# Altium integrated library Altera FLEX 10K.IntLib: 292 symbols (part 9 of 37)
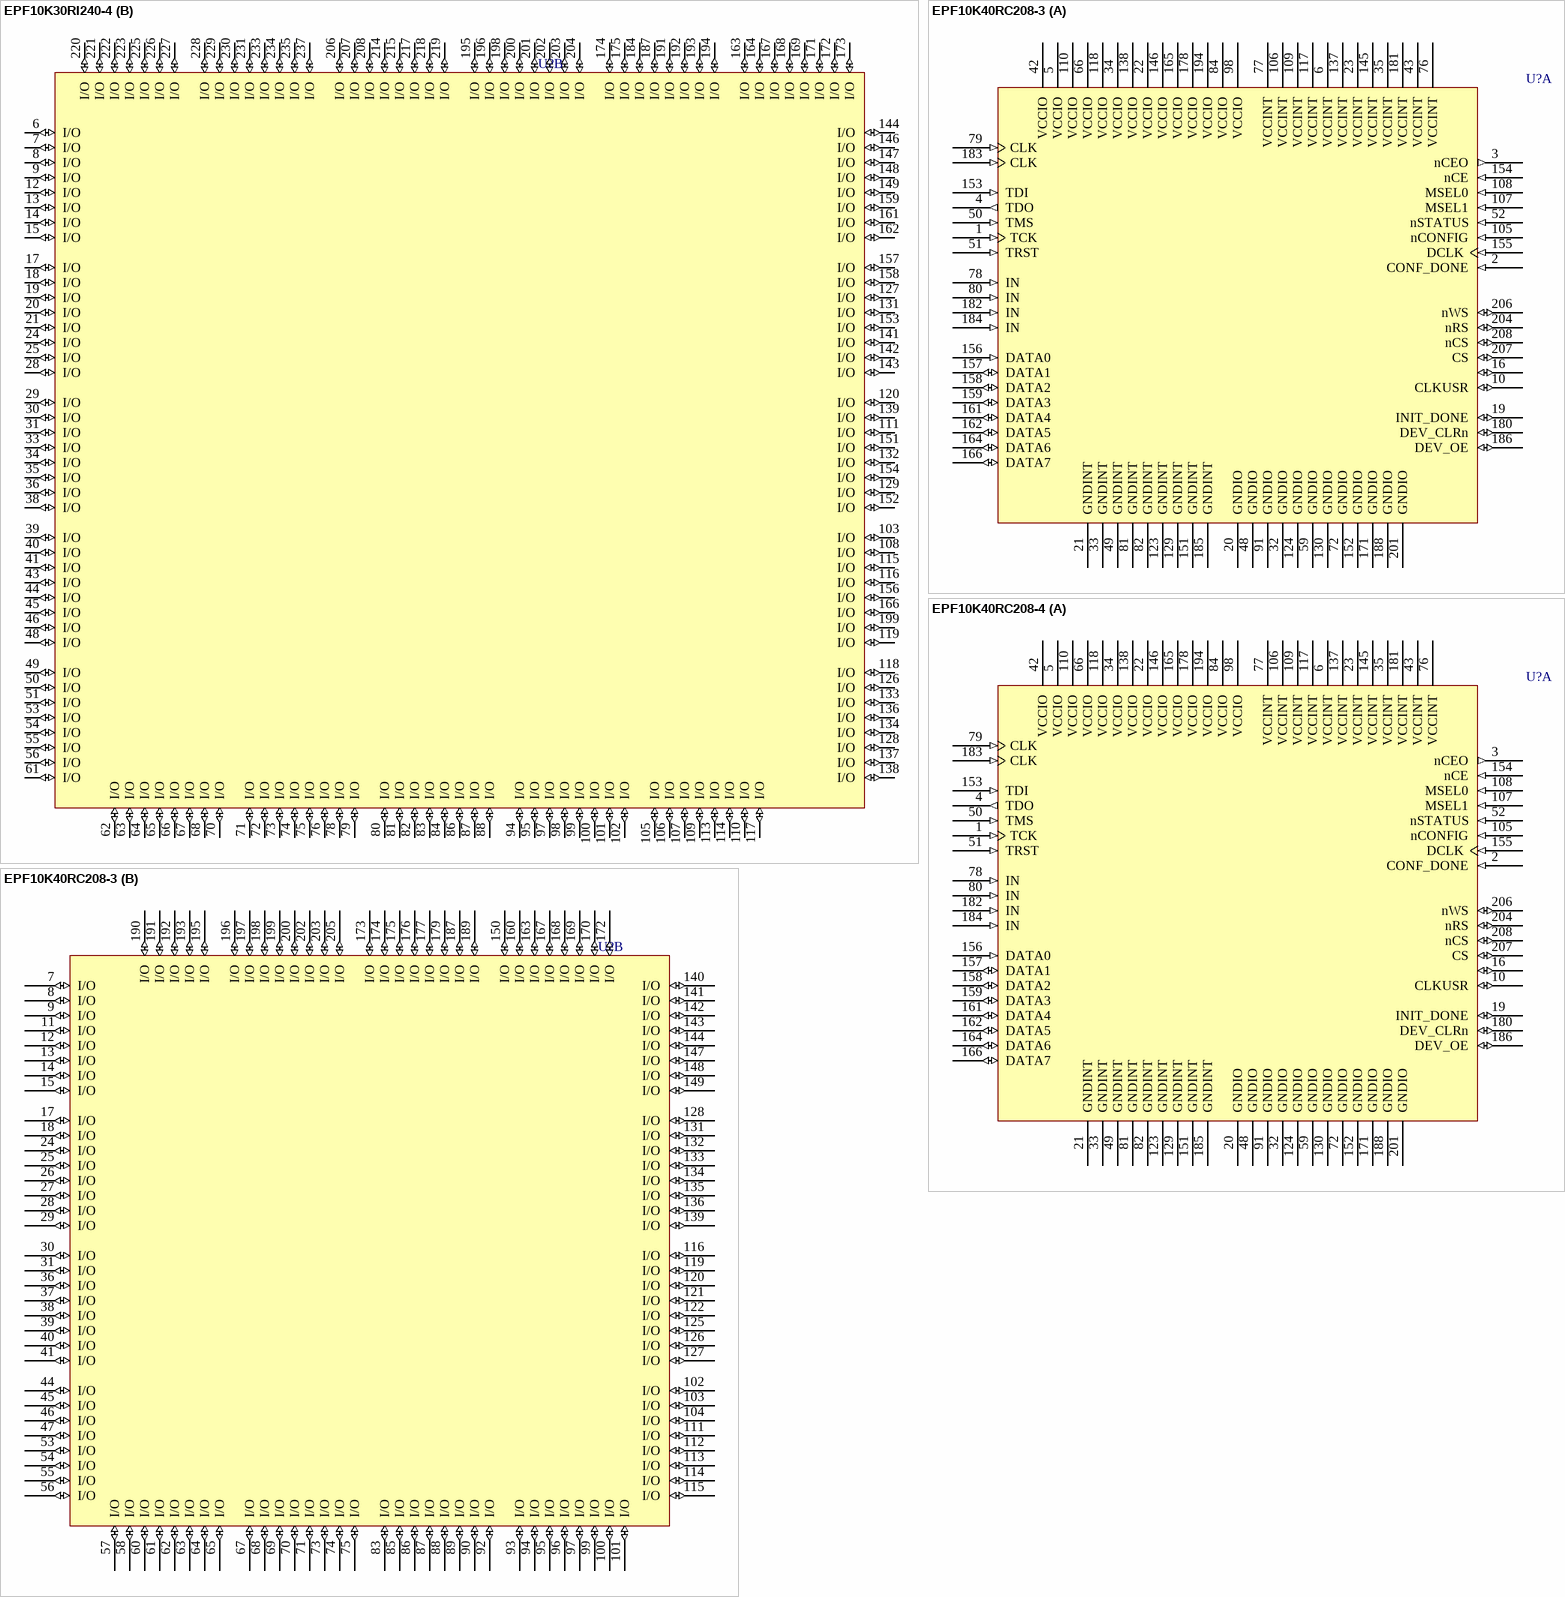
[diagram p407: symbols EPF10K30RI240-4 to EPF10K40RC208-4]

## EPF10K30RI240-4
designator U?
FLEX EPF10K30 5.0V Embedded PLD, 189 User IO Pins, 240-Pin RQFP, Speed Grade 4, Industrial Grade; Published: 24-Nov-2000; LatestRevisionDate: 13-Apr-2006; LatestRevisionNote: IPC-7351 Footprint Added.; DatasheetVersion: ver4.2, Jan-2003; PackageVersion: ver14.2, Oct-2005; PackageReference: RQFP240; Publisher: Altium Limited; PackageDescription: 240-Pin Power Quad Flat Pack (RQFP240); Supplier 1: Digi-Key; Supplier Part Number 1: 544-2234-ND; Code_JEDEC: MS-029-GA; ComponentLink1Description: Manufacturer Link; ComponentLink1URL: http://www.altera.com/products/devices/flex10k/f10-index.html; ComponentLink2Description: Datasheet; ComponentLink2URL: http://www.altera.com/literature/ds/dsf10k.pdf
footprint RQFP240_N (Shrink QFP, 240-Leads, Body 32x32mm, Pitch 0.5mm, IPC Medium Density)
footprint RQFP240_L (Shrink QFP, 240-Leads, Body 32x32mm, Pitch 0.5mm, IPC High Density)
footprint RQFP240_M (Shrink QFP, 240-Leads, Body 32x32mm, Pitch 0.5mm, IPC Low Density)
3D model EPF10K30-RQFP240 (240-Pin Power Quad Flat Pack (RQFP240))
part A pins: 1 TCK (in), 2 CONF_DONE (in), 3 nCEO (out), 4 TDO (out), 5 VCCINT (power), 10 GNDINT (power), 11 CLKUSR (io), 16 VCCINT (power), 22 GNDINT (power), 23 RDYnBUSY (io), 26 INIT_DONE (io), 27 VCCINT (power), 32 GNDINT (power), 37 VCCINT (power), 42 GNDINT (power), 47 VCCINT (power), 52 GNDINT (power), 57 VCCINT (power), 58 TMS (in), 59 TRST (in), 60 nSTATUS (in), 69 GNDINT (power), 77 VCCINT (power), 85 GNDINT (power), 89 VCCINT (power), 90 IN (in), 91 CLK (in), 92 IN (in), 93 GNDINT (power), 96 VCCINT (power), 104 GNDINT (power), 112 VCCINT (power), 121 nCONFIG (in), 122 VCCINT (power), 123 MSEL1 (in), 124 MSEL0 (in), 125 GNDINT (power), 130 VCCINT (power), 135 GNDINT (power), 140 VCCINT (power), 145 GNDINT (power), 150 VCCINT (power), 155 GNDINT (power), 160 VCCINT (power), 165 GNDINT (power), 170 VCCINT (power), 176 GNDINT (power), 177 TDI (in), 178 nCE (in), 179 DCLK (in), 180 DATA0 (in), 181 DATA1 (io), 182 DATA2 (io), 183 DATA3 (io), 185 DATA4 (io), 186 DATA5 (io), 188 DATA6 (io), 189 VCCINT (power), 190 DATA7 (io), 197 GNDINT (power), 205 VCCINT (power), 209 DEV_CLRn (io), 210 IN (in), 211 CLK (in), 212 IN (in), 213 DEV_OE (io), 216 GNDINT (power), 224 VCCINT (power), 232 GNDINT (power), 236 nRS (io), 238 nWS (io), 239 CS (io), 240 nCS (io)
part B pins: 6 I/O (io), 7 I/O (io), 8 I/O (io), 9 I/O (io), 12 I/O (io), 13 I/O (io), 14 I/O (io), 15 I/O (io), 17 I/O (io), 18 I/O (io), 19 I/O (io), 20 I/O (io), 21 I/O (io), 24 I/O (io), 25 I/O (io), 28 I/O (io), 29 I/O (io), 30 I/O (io), 31 I/O (io), 33 I/O (io), 34 I/O (io), 35 I/O (io), 36 I/O (io), 38 I/O (io), 39 I/O (io), 40 I/O (io), 41 I/O (io), 43 I/O (io), 44 I/O (io), 45 I/O (io), 46 I/O (io), 48 I/O (io), 49 I/O (io), 50 I/O (io), 51 I/O (io), 53 I/O (io), 54 I/O (io), 55 I/O (io), 56 I/O (io), 61 I/O (io), 62 I/O (io), 63 I/O (io), 64 I/O (io), 65 I/O (io), 66 I/O (io), 67 I/O (io), 68 I/O (io), 70 I/O (io), 71 I/O (io), 72 I/O (io), 73 I/O (io), 74 I/O (io), 75 I/O (io), 76 I/O (io), 78 I/O (io), 79 I/O (io), 80 I/O (io), 81 I/O (io), 82 I/O (io), 83 I/O (io), 84 I/O (io), 86 I/O (io), 87 I/O (io), 88 I/O (io), 94 I/O (io), 95 I/O (io), 97 I/O (io), 98 I/O (io), 99 I/O (io), 100 I/O (io), 101 I/O (io), 102 I/O (io), 103 I/O (io), 105 I/O (io), 106 I/O (io), 107 I/O (io), 108 I/O (io), 109 I/O (io), 110 I/O (io), 111 I/O (io), 113 I/O (io), 114 I/O (io), 115 I/O (io), 116 I/O (io), 117 I/O (io), 118 I/O (io), 119 I/O (io), 120 I/O (io), 126 I/O (io), 127 I/O (io), 128 I/O (io), 129 I/O (io), 131 I/O (io), 132 I/O (io), 133 I/O (io), 134 I/O (io), 136 I/O (io), 137 I/O (io), 138 I/O (io), 139 I/O (io), 141 I/O (io), 142 I/O (io), 143 I/O (io), 144 I/O (io), 146 I/O (io), 147 I/O (io), 148 I/O (io), 149 I/O (io), 151 I/O (io), 152 I/O (io), 153 I/O (io), 154 I/O (io), 156 I/O (io), 157 I/O (io), 158 I/O (io), 159 I/O (io), 161 I/O (io), 162 I/O (io), 163 I/O (io), 164 I/O (io), 166 I/O (io), 167 I/O (io), 168 I/O (io), 169 I/O (io), 171 I/O (io), 172 I/O (io), 173 I/O (io), 174 I/O (io), 175 I/O (io), 184 I/O (io), 187 I/O (io), 191 I/O (io), 192 I/O (io), 193 I/O (io), 194 I/O (io), 195 I/O (io), 196 I/O (io), 198 I/O (io), 199 I/O (io), 200 I/O (io), 201 I/O (io), 202 I/O (io), 203 I/O (io), 204 I/O (io), 206 I/O (io), 207 I/O (io), 208 I/O (io), 214 I/O (io), 215 I/O (io), 217 I/O (io), 218 I/O (io), 219 I/O (io), 220 I/O (io), 221 I/O (io), 222 I/O (io), 223 I/O (io), 225 I/O (io), 226 I/O (io), 227 I/O (io), 228 I/O (io), 229 I/O (io), 230 I/O (io), 231 I/O (io), 233 I/O (io), 234 I/O (io), 235 I/O (io), 237 I/O (io)

## EPF10K40RC208-3
designator U?
FLEX EPF10K40 5.0V Embedded PLD, 147 User IO Pins, 208-Pin RQFP, Speed Grade 3, Commercial Grade; Published: 24-Nov-2000; LatestRevisionDate: 13-Apr-2006; LatestRevisionNote: IPC-7351 Footprint Added.; DatasheetVersion: ver4.2, Jan-2003; PackageVersion: ver14.3, Jul-2006; PackageReference: RQFP208; Publisher: Altium Limited; PackageDescription: 208-Pin Power Quad Flat Pack (RQFP208); Supplier 1: Digi-Key; Supplier Part Number 1: 544-2235-ND; Code_JEDEC: MS-029-FA-1; ComponentLink1Description: Manufacturer Link; ComponentLink1URL: http://www.altera.com/products/devices/flex10k/f10-index.html; ComponentLink2Description: Datasheet; ComponentLink2URL: http://www.altera.com/literature/ds/dsf10k.pdf
footprint RQFP208_N (Shrink QFP, 208-Leads, Body 28x28mm, Pitch 0.5mm, IPC Medium Density)
footprint RQFP208_L (Shrink QFP, 208-Leads, Body 28x28mm, Pitch 0.5mm, IPC High Density)
footprint RQFP208_M (Shrink QFP, 208-Leads, Body 28x28mm, Pitch 0.5mm, IPC Low Density)
3D model EPF10K40-RQFP208 (208-Pin Power Quad Flat Pack (RQFP208))
part A pins: 1 TCK (in), 2 CONF_DONE (in), 3 nCEO (out), 4 TDO (out), 5 VCCIO (power), 6 VCCINT (power), 10 CLKUSR (io), 16 RDYnBUSY (io), 19 INIT_DONE (io), 20 GNDIO (power), 21 GNDINT (power), 22 VCCIO (power), 23 VCCINT (power), 32 GNDIO (power), 33 GNDINT (power), 34 VCCIO (power), 35 VCCINT (power), 42 VCCIO (power), 43 VCCINT (power), 48 GNDIO (power), 49 GNDINT (power), 50 TMS (in), 51 TRST (in), 52 nSTATUS (in), 59 GNDIO (power), 66 VCCIO (power), 72 GNDIO (power), 76 VCCINT (power), 77 VCCINT (power), 78 IN (in), 79 CLK (in), 80 IN (in), 81 GNDINT (power), 82 GNDINT (power), 84 VCCIO (power), 91 GNDIO (power), 98 VCCIO (power), 105 nCONFIG (in), 106 VCCINT (power), 107 MSEL1 (in), 108 MSEL0 (in), 109 VCCINT (power), 110 VCCIO (power), 117 VCCINT (power), 118 VCCIO (power), 123 GNDINT (power), 124 GNDIO (power), 129 GNDINT (power), 130 GNDIO (power), 137 VCCINT (power), 138 VCCIO (power), 145 VCCINT (power), 146 VCCIO (power), 151 GNDINT (power), 152 GNDIO (power), 153 TDI (in), 154 nCE (in), 155 DCLK (in), 156 DATA0 (in), 157 DATA1 (io), 158 DATA2 (io), 159 DATA3 (io), 161 DATA4 (io), 162 DATA5 (io), 164 DATA6 (io), 165 VCCIO (power), 166 DATA7 (io), 171 GNDIO (power), 178 VCCIO (power), 180 DEV_CLRn (io), 181 VCCINT (power), 182 IN (in), 183 CLK (in), 184 IN (in), 185 GNDINT (power), 186 DEV_OE (io), 188 GNDIO (power), 194 VCCIO (power), 201 GNDIO (power), 204 nRS (io), 206 nWS (io), 207 CS (io), 208 nCS (io)
part B pins: 7 I/O (io), 8 I/O (io), 9 I/O (io), 11 I/O (io), 12 I/O (io), 13 I/O (io), 14 I/O (io), 15 I/O (io), 17 I/O (io), 18 I/O (io), 24 I/O (io), 25 I/O (io), 26 I/O (io), 27 I/O (io), 28 I/O (io), 29 I/O (io), 30 I/O (io), 31 I/O (io), 36 I/O (io), 37 I/O (io), 38 I/O (io), 39 I/O (io), 40 I/O (io), 41 I/O (io), 44 I/O (io), 45 I/O (io), 46 I/O (io), 47 I/O (io), 53 I/O (io), 54 I/O (io), 55 I/O (io), 56 I/O (io), 57 I/O (io), 58 I/O (io), 60 I/O (io), 61 I/O (io), 62 I/O (io), 63 I/O (io), 64 I/O (io), 65 I/O (io), 67 I/O (io), 68 I/O (io), 69 I/O (io), 70 I/O (io), 71 I/O (io), 73 I/O (io), 74 I/O (io), 75 I/O (io), 83 I/O (io), 85 I/O (io), 86 I/O (io), 87 I/O (io), 88 I/O (io), 89 I/O (io), 90 I/O (io), 92 I/O (io), 93 I/O (io), 94 I/O (io), 95 I/O (io), 96 I/O (io), 97 I/O (io), 99 I/O (io), 100 I/O (io), 101 I/O (io), 102 I/O (io), 103 I/O (io), 104 I/O (io), 111 I/O (io), 112 I/O (io), 113 I/O (io), 114 I/O (io), 115 I/O (io), 116 I/O (io), 119 I/O (io), 120 I/O (io), 121 I/O (io), 122 I/O (io), 125 I/O (io), 126 I/O (io), 127 I/O (io), 128 I/O (io), 131 I/O (io), 132 I/O (io), 133 I/O (io), 134 I/O (io), 135 I/O (io), 136 I/O (io), 139 I/O (io), 140 I/O (io), 141 I/O (io), 142 I/O (io), 143 I/O (io), 144 I/O (io), 147 I/O (io), 148 I/O (io), 149 I/O (io), 150 I/O (io), 160 I/O (io), 163 I/O (io), 167 I/O (io), 168 I/O (io), 169 I/O (io), 170 I/O (io), 172 I/O (io), 173 I/O (io), 174 I/O (io), 175 I/O (io), 176 I/O (io), 177 I/O (io), 179 I/O (io), 187 I/O (io), 189 I/O (io), 190 I/O (io), 191 I/O (io), 192 I/O (io), 193 I/O (io), 195 I/O (io), 196 I/O (io), 197 I/O (io), 198 I/O (io), 199 I/O (io), 200 I/O (io), 202 I/O (io), 203 I/O (io), 205 I/O (io)

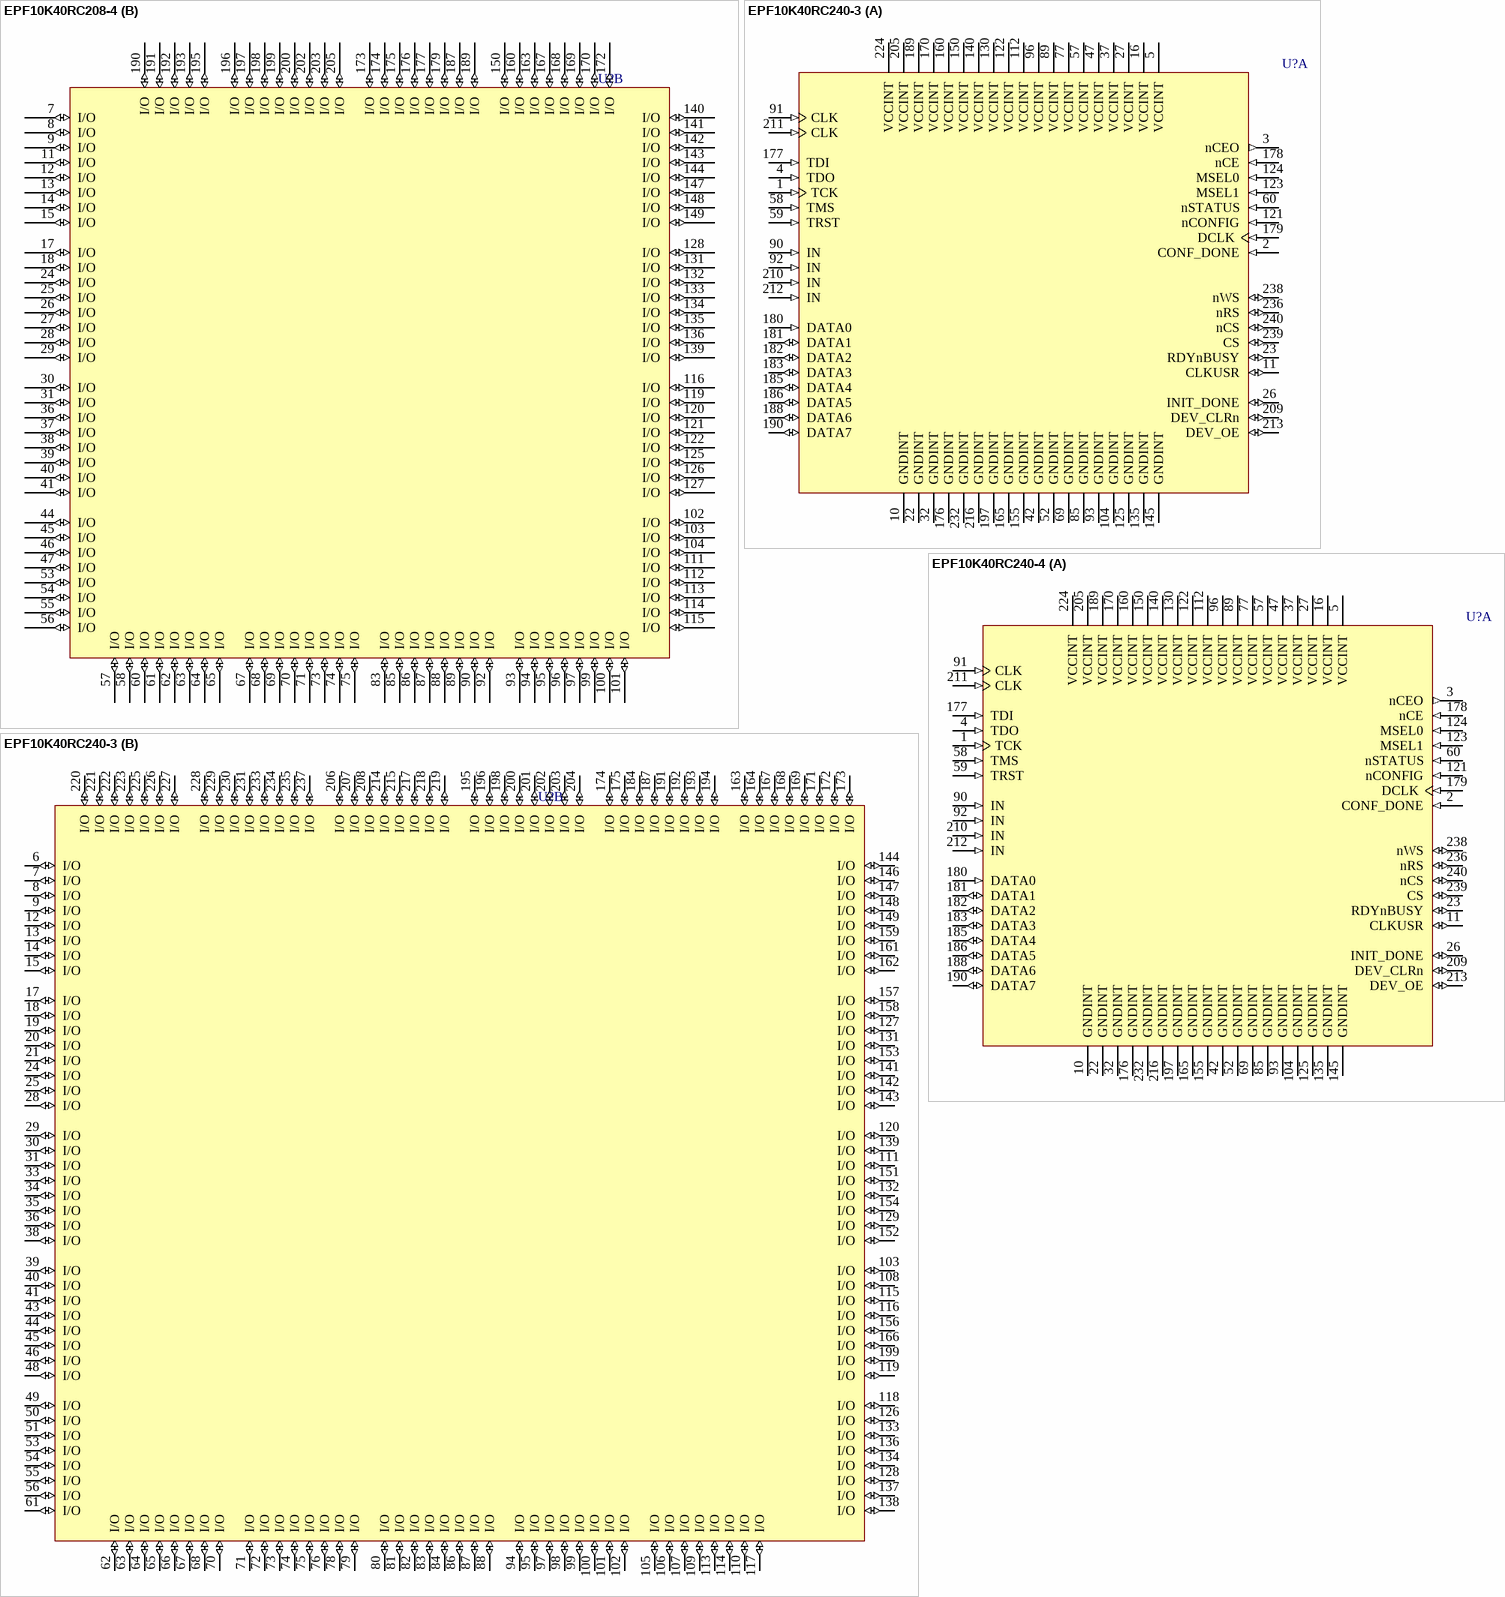
[diagram p82: symbols EPF10K40RC208-4 to EPF10K40RC240-4]

## EPF10K40RC208-4
designator U?
FLEX EPF10K40 5.0V Embedded PLD, 147 User IO Pins, 208-Pin RQFP, Speed Grade 4, Commercial Grade; Published: 24-Nov-2000; LatestRevisionDate: 13-Apr-2006; LatestRevisionNote: IPC-7351 Footprint Added.; DatasheetVersion: ver4.2, Jan-2003; PackageVersion: ver14.3, Jul-2006; PackageReference: RQFP208; Publisher: Altium Limited; PackageDescription: 208-Pin Power Quad Flat Pack (RQFP208); Supplier 1: Digi-Key; Supplier Part Number 1: 544-2236-ND; Code_JEDEC: MS-029-FA-1; ComponentLink1Description: Manufacturer Link; ComponentLink1URL: http://www.altera.com/products/devices/flex10k/f10-index.html; ComponentLink2Description: Datasheet; ComponentLink2URL: http://www.altera.com/literature/ds/dsf10k.pdf
footprint RQFP208_N (Shrink QFP, 208-Leads, Body 28x28mm, Pitch 0.5mm, IPC Medium Density)
footprint RQFP208_L (Shrink QFP, 208-Leads, Body 28x28mm, Pitch 0.5mm, IPC High Density)
footprint RQFP208_M (Shrink QFP, 208-Leads, Body 28x28mm, Pitch 0.5mm, IPC Low Density)
3D model EPF10K40-RQFP208 (208-Pin Power Quad Flat Pack (RQFP208))
part A pins: 1 TCK (in), 2 CONF_DONE (in), 3 nCEO (out), 4 TDO (out), 5 VCCIO (power), 6 VCCINT (power), 10 CLKUSR (io), 16 RDYnBUSY (io), 19 INIT_DONE (io), 20 GNDIO (power), 21 GNDINT (power), 22 VCCIO (power), 23 VCCINT (power), 32 GNDIO (power), 33 GNDINT (power), 34 VCCIO (power), 35 VCCINT (power), 42 VCCIO (power), 43 VCCINT (power), 48 GNDIO (power), 49 GNDINT (power), 50 TMS (in), 51 TRST (in), 52 nSTATUS (in), 59 GNDIO (power), 66 VCCIO (power), 72 GNDIO (power), 76 VCCINT (power), 77 VCCINT (power), 78 IN (in), 79 CLK (in), 80 IN (in), 81 GNDINT (power), 82 GNDINT (power), 84 VCCIO (power), 91 GNDIO (power), 98 VCCIO (power), 105 nCONFIG (in), 106 VCCINT (power), 107 MSEL1 (in), 108 MSEL0 (in), 109 VCCINT (power), 110 VCCIO (power), 117 VCCINT (power), 118 VCCIO (power), 123 GNDINT (power), 124 GNDIO (power), 129 GNDINT (power), 130 GNDIO (power), 137 VCCINT (power), 138 VCCIO (power), 145 VCCINT (power), 146 VCCIO (power), 151 GNDINT (power), 152 GNDIO (power), 153 TDI (in), 154 nCE (in), 155 DCLK (in), 156 DATA0 (in), 157 DATA1 (io), 158 DATA2 (io), 159 DATA3 (io), 161 DATA4 (io), 162 DATA5 (io), 164 DATA6 (io), 165 VCCIO (power), 166 DATA7 (io), 171 GNDIO (power), 178 VCCIO (power), 180 DEV_CLRn (io), 181 VCCINT (power), 182 IN (in), 183 CLK (in), 184 IN (in), 185 GNDINT (power), 186 DEV_OE (io), 188 GNDIO (power), 194 VCCIO (power), 201 GNDIO (power), 204 nRS (io), 206 nWS (io), 207 CS (io), 208 nCS (io)
part B pins: 7 I/O (io), 8 I/O (io), 9 I/O (io), 11 I/O (io), 12 I/O (io), 13 I/O (io), 14 I/O (io), 15 I/O (io), 17 I/O (io), 18 I/O (io), 24 I/O (io), 25 I/O (io), 26 I/O (io), 27 I/O (io), 28 I/O (io), 29 I/O (io), 30 I/O (io), 31 I/O (io), 36 I/O (io), 37 I/O (io), 38 I/O (io), 39 I/O (io), 40 I/O (io), 41 I/O (io), 44 I/O (io), 45 I/O (io), 46 I/O (io), 47 I/O (io), 53 I/O (io), 54 I/O (io), 55 I/O (io), 56 I/O (io), 57 I/O (io), 58 I/O (io), 60 I/O (io), 61 I/O (io), 62 I/O (io), 63 I/O (io), 64 I/O (io), 65 I/O (io), 67 I/O (io), 68 I/O (io), 69 I/O (io), 70 I/O (io), 71 I/O (io), 73 I/O (io), 74 I/O (io), 75 I/O (io), 83 I/O (io), 85 I/O (io), 86 I/O (io), 87 I/O (io), 88 I/O (io), 89 I/O (io), 90 I/O (io), 92 I/O (io), 93 I/O (io), 94 I/O (io), 95 I/O (io), 96 I/O (io), 97 I/O (io), 99 I/O (io), 100 I/O (io), 101 I/O (io), 102 I/O (io), 103 I/O (io), 104 I/O (io), 111 I/O (io), 112 I/O (io), 113 I/O (io), 114 I/O (io), 115 I/O (io), 116 I/O (io), 119 I/O (io), 120 I/O (io), 121 I/O (io), 122 I/O (io), 125 I/O (io), 126 I/O (io), 127 I/O (io), 128 I/O (io), 131 I/O (io), 132 I/O (io), 133 I/O (io), 134 I/O (io), 135 I/O (io), 136 I/O (io), 139 I/O (io), 140 I/O (io), 141 I/O (io), 142 I/O (io), 143 I/O (io), 144 I/O (io), 147 I/O (io), 148 I/O (io), 149 I/O (io), 150 I/O (io), 160 I/O (io), 163 I/O (io), 167 I/O (io), 168 I/O (io), 169 I/O (io), 170 I/O (io), 172 I/O (io), 173 I/O (io), 174 I/O (io), 175 I/O (io), 176 I/O (io), 177 I/O (io), 179 I/O (io), 187 I/O (io), 189 I/O (io), 190 I/O (io), 191 I/O (io), 192 I/O (io), 193 I/O (io), 195 I/O (io), 196 I/O (io), 197 I/O (io), 198 I/O (io), 199 I/O (io), 200 I/O (io), 202 I/O (io), 203 I/O (io), 205 I/O (io)

## EPF10K40RC240-3
designator U?
FLEX EPF10K40 5.0V Embedded PLD, 189 User IO Pins, 240-Pin RQFP, Speed Grade 3, Commercial Grade; Published: 24-Nov-2000; LatestRevisionDate: 13-Apr-2006; LatestRevisionNote: IPC-7351 Footprint Added.; DatasheetVersion: ver4.2, Jan-2003; PackageVersion: ver14.2, Oct-2005; PackageReference: RQFP240; Publisher: Altium Limited; PackageDescription: 240-Pin Power Quad Flat Pack (RQFP240); Code_JEDEC: MS-029-GA; ComponentLink1Description: Manufacturer Link; ComponentLink1URL: http://www.altera.com/products/devices/flex10k/f10-index.html; ComponentLink2Description: Datasheet; ComponentLink2URL: http://www.altera.com/literature/ds/dsf10k.pdf
footprint RQFP240_N (Shrink QFP, 240-Leads, Body 32x32mm, Pitch 0.5mm, IPC Medium Density)
footprint RQFP240_L (Shrink QFP, 240-Leads, Body 32x32mm, Pitch 0.5mm, IPC High Density)
footprint RQFP240_M (Shrink QFP, 240-Leads, Body 32x32mm, Pitch 0.5mm, IPC Low Density)
3D model EPF10K40-RQFP240 (240-Pin Power Quad Flat Pack (RQFP240))
part A pins: 1 TCK (in), 2 CONF_DONE (in), 3 nCEO (out), 4 TDO (in), 5 VCCINT (power), 10 GNDINT (power), 11 CLKUSR (io), 16 VCCINT (power), 22 GNDINT (power), 23 RDYnBUSY (io), 26 INIT_DONE (io), 27 VCCINT (power), 32 GNDINT (power), 37 VCCINT (power), 42 GNDINT (power), 47 VCCINT (power), 52 GNDINT (power), 57 VCCINT (power), 58 TMS (in), 59 TRST (in), 60 nSTATUS (in), 69 GNDINT (power), 77 VCCINT (power), 85 GNDINT (power), 89 VCCINT (power), 90 IN (in), 91 CLK (in), 92 IN (in), 93 GNDINT (power), 96 VCCINT (power), 104 GNDINT (power), 112 VCCINT (power), 121 nCONFIG (in), 122 VCCINT (power), 123 MSEL1 (in), 124 MSEL0 (in), 125 GNDINT (power), 130 VCCINT (power), 135 GNDINT (power), 140 VCCINT (power), 145 GNDINT (power), 150 VCCINT (power), 155 GNDINT (power), 160 VCCINT (power), 165 GNDINT (power), 170 VCCINT (power), 176 GNDINT (power), 177 TDI (in), 178 nCE (in), 179 DCLK (in), 180 DATA0 (in), 181 DATA1 (io), 182 DATA2 (io), 183 DATA3 (io), 185 DATA4 (io), 186 DATA5 (io), 188 DATA6 (io), 189 VCCINT (power), 190 DATA7 (io), 197 GNDINT (power), 205 VCCINT (power), 209 DEV_CLRn (io), 210 IN (in), 211 CLK (in), 212 IN (in), 213 DEV_OE (io), 216 GNDINT (power), 224 VCCINT (power), 232 GNDINT (power), 236 nRS (io), 238 nWS (io), 239 CS (io), 240 nCS (io)
part B pins: 6 I/O (io), 7 I/O (io), 8 I/O (io), 9 I/O (io), 12 I/O (io), 13 I/O (io), 14 I/O (io), 15 I/O (io), 17 I/O (io), 18 I/O (io), 19 I/O (io), 20 I/O (io), 21 I/O (io), 24 I/O (io), 25 I/O (io), 28 I/O (io), 29 I/O (io), 30 I/O (io), 31 I/O (io), 33 I/O (io), 34 I/O (io), 35 I/O (io), 36 I/O (io), 38 I/O (io), 39 I/O (io), 40 I/O (io), 41 I/O (io), 43 I/O (io), 44 I/O (io), 45 I/O (io), 46 I/O (io), 48 I/O (io), 49 I/O (io), 50 I/O (io), 51 I/O (io), 53 I/O (io), 54 I/O (io), 55 I/O (io), 56 I/O (io), 61 I/O (io), 62 I/O (io), 63 I/O (io), 64 I/O (io), 65 I/O (io), 66 I/O (io), 67 I/O (io), 68 I/O (io), 70 I/O (io), 71 I/O (io), 72 I/O (io), 73 I/O (io), 74 I/O (io), 75 I/O (io), 76 I/O (io), 78 I/O (io), 79 I/O (io), 80 I/O (io), 81 I/O (io), 82 I/O (io), 83 I/O (io), 84 I/O (io), 86 I/O (io), 87 I/O (io), 88 I/O (io), 94 I/O (io), 95 I/O (io), 97 I/O (io), 98 I/O (io), 99 I/O (io), 100 I/O (io), 101 I/O (io), 102 I/O (io), 103 I/O (io), 105 I/O (io), 106 I/O (io), 107 I/O (io), 108 I/O (io), 109 I/O (io), 110 I/O (io), 111 I/O (io), 113 I/O (io), 114 I/O (io), 115 I/O (io), 116 I/O (io), 117 I/O (io), 118 I/O (io), 119 I/O (io), 120 I/O (io), 126 I/O (io), 127 I/O (io), 128 I/O (io), 129 I/O (io), 131 I/O (io), 132 I/O (io), 133 I/O (io), 134 I/O (io), 136 I/O (io), 137 I/O (io), 138 I/O (io), 139 I/O (io), 141 I/O (io), 142 I/O (io), 143 I/O (io), 144 I/O (io), 146 I/O (io), 147 I/O (io), 148 I/O (io), 149 I/O (io), 151 I/O (io), 152 I/O (io), 153 I/O (io), 154 I/O (io), 156 I/O (io), 157 I/O (io), 158 I/O (io), 159 I/O (io), 161 I/O (io), 162 I/O (io), 163 I/O (io), 164 I/O (io), 166 I/O (io), 167 I/O (io), 168 I/O (io), 169 I/O (io), 171 I/O (io), 172 I/O (io), 173 I/O (io), 174 I/O (io), 175 I/O (io), 184 I/O (io), 187 I/O (io), 191 I/O (io), 192 I/O (io), 193 I/O (io), 194 I/O (io), 195 I/O (io), 196 I/O (io), 198 I/O (io), 199 I/O (io), 200 I/O (io), 201 I/O (io), 202 I/O (io), 203 I/O (io), 204 I/O (io), 206 I/O (io), 207 I/O (io), 208 I/O (io), 214 I/O (io), 215 I/O (io), 217 I/O (io), 218 I/O (io), 219 I/O (io), 220 I/O (io), 221 I/O (io), 222 I/O (io), 223 I/O (io), 225 I/O (io), 226 I/O (io), 227 I/O (io), 228 I/O (io), 229 I/O (io), 230 I/O (io), 231 I/O (io), 233 I/O (io), 234 I/O (io), 235 I/O (io), 237 I/O (io)

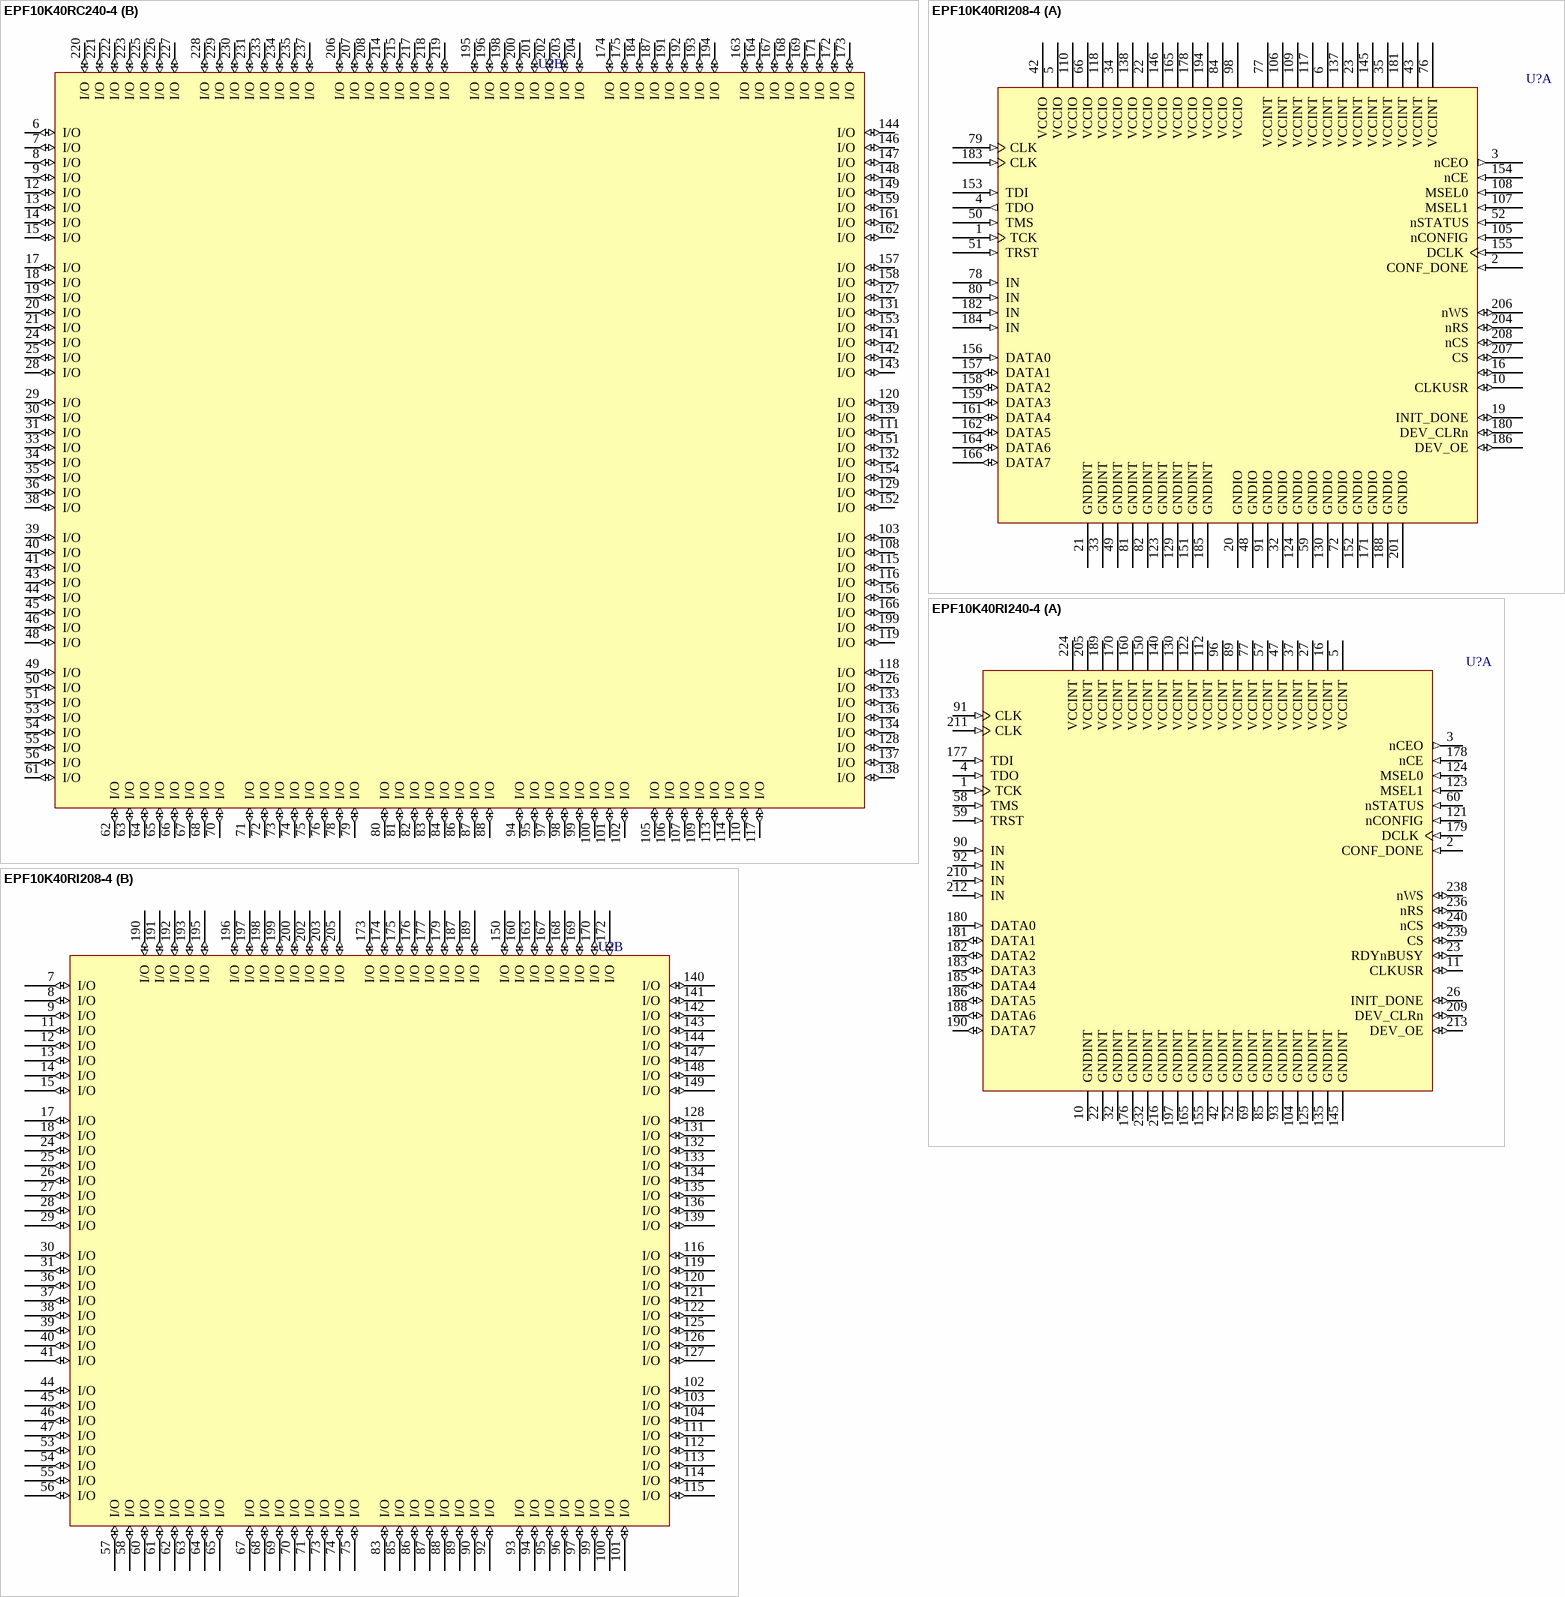
[diagram p83: symbols EPF10K40RC240-4 to EPF10K40RI240-4]

## EPF10K40RC240-4
designator U?
FLEX EPF10K40 5.0V Embedded PLD, 189 User IO Pins, 240-Pin RQFP, Speed Grade 4, Commercial Grade; Published: 24-Nov-2000; LatestRevisionDate: 13-Apr-2006; LatestRevisionNote: IPC-7351 Footprint Added.; DatasheetVersion: ver4.2, Jan-2003; PackageVersion: ver14.2, Oct-2005; PackageReference: RQFP240; Publisher: Altium Limited; PackageDescription: 240-Pin Power Quad Flat Pack (RQFP240); Supplier 1: Digi-Key; Supplier Part Number 1: 544-2237-ND; Code_JEDEC: MS-029-GA; ComponentLink1Description: Manufacturer Link; ComponentLink1URL: http://www.altera.com/products/devices/flex10k/f10-index.html; ComponentLink2Description: Datasheet; ComponentLink2URL: http://www.altera.com/literature/ds/dsf10k.pdf
footprint RQFP240_N (Shrink QFP, 240-Leads, Body 32x32mm, Pitch 0.5mm, IPC Medium Density)
footprint RQFP240_L (Shrink QFP, 240-Leads, Body 32x32mm, Pitch 0.5mm, IPC High Density)
footprint RQFP240_M (Shrink QFP, 240-Leads, Body 32x32mm, Pitch 0.5mm, IPC Low Density)
3D model EPF10K40-RQFP240 (240-Pin Power Quad Flat Pack (RQFP240))
part A pins: 1 TCK (in), 2 CONF_DONE (in), 3 nCEO (out), 4 TDO (in), 5 VCCINT (power), 10 GNDINT (power), 11 CLKUSR (io), 16 VCCINT (power), 22 GNDINT (power), 23 RDYnBUSY (io), 26 INIT_DONE (io), 27 VCCINT (power), 32 GNDINT (power), 37 VCCINT (power), 42 GNDINT (power), 47 VCCINT (power), 52 GNDINT (power), 57 VCCINT (power), 58 TMS (in), 59 TRST (in), 60 nSTATUS (in), 69 GNDINT (power), 77 VCCINT (power), 85 GNDINT (power), 89 VCCINT (power), 90 IN (in), 91 CLK (in), 92 IN (in), 93 GNDINT (power), 96 VCCINT (power), 104 GNDINT (power), 112 VCCINT (power), 121 nCONFIG (in), 122 VCCINT (power), 123 MSEL1 (in), 124 MSEL0 (in), 125 GNDINT (power), 130 VCCINT (power), 135 GNDINT (power), 140 VCCINT (power), 145 GNDINT (power), 150 VCCINT (power), 155 GNDINT (power), 160 VCCINT (power), 165 GNDINT (power), 170 VCCINT (power), 176 GNDINT (power), 177 TDI (in), 178 nCE (in), 179 DCLK (in), 180 DATA0 (in), 181 DATA1 (io), 182 DATA2 (io), 183 DATA3 (io), 185 DATA4 (io), 186 DATA5 (io), 188 DATA6 (io), 189 VCCINT (power), 190 DATA7 (io), 197 GNDINT (power), 205 VCCINT (power), 209 DEV_CLRn (io), 210 IN (in), 211 CLK (in), 212 IN (in), 213 DEV_OE (io), 216 GNDINT (power), 224 VCCINT (power), 232 GNDINT (power), 236 nRS (io), 238 nWS (io), 239 CS (io), 240 nCS (io)
part B pins: 6 I/O (io), 7 I/O (io), 8 I/O (io), 9 I/O (io), 12 I/O (io), 13 I/O (io), 14 I/O (io), 15 I/O (io), 17 I/O (io), 18 I/O (io), 19 I/O (io), 20 I/O (io), 21 I/O (io), 24 I/O (io), 25 I/O (io), 28 I/O (io), 29 I/O (io), 30 I/O (io), 31 I/O (io), 33 I/O (io), 34 I/O (io), 35 I/O (io), 36 I/O (io), 38 I/O (io), 39 I/O (io), 40 I/O (io), 41 I/O (io), 43 I/O (io), 44 I/O (io), 45 I/O (io), 46 I/O (io), 48 I/O (io), 49 I/O (io), 50 I/O (io), 51 I/O (io), 53 I/O (io), 54 I/O (io), 55 I/O (io), 56 I/O (io), 61 I/O (io), 62 I/O (io), 63 I/O (io), 64 I/O (io), 65 I/O (io), 66 I/O (io), 67 I/O (io), 68 I/O (io), 70 I/O (io), 71 I/O (io), 72 I/O (io), 73 I/O (io), 74 I/O (io), 75 I/O (io), 76 I/O (io), 78 I/O (io), 79 I/O (io), 80 I/O (io), 81 I/O (io), 82 I/O (io), 83 I/O (io), 84 I/O (io), 86 I/O (io), 87 I/O (io), 88 I/O (io), 94 I/O (io), 95 I/O (io), 97 I/O (io), 98 I/O (io), 99 I/O (io), 100 I/O (io), 101 I/O (io), 102 I/O (io), 103 I/O (io), 105 I/O (io), 106 I/O (io), 107 I/O (io), 108 I/O (io), 109 I/O (io), 110 I/O (io), 111 I/O (io), 113 I/O (io), 114 I/O (io), 115 I/O (io), 116 I/O (io), 117 I/O (io), 118 I/O (io), 119 I/O (io), 120 I/O (io), 126 I/O (io), 127 I/O (io), 128 I/O (io), 129 I/O (io), 131 I/O (io), 132 I/O (io), 133 I/O (io), 134 I/O (io), 136 I/O (io), 137 I/O (io), 138 I/O (io), 139 I/O (io), 141 I/O (io), 142 I/O (io), 143 I/O (io), 144 I/O (io), 146 I/O (io), 147 I/O (io), 148 I/O (io), 149 I/O (io), 151 I/O (io), 152 I/O (io), 153 I/O (io), 154 I/O (io), 156 I/O (io), 157 I/O (io), 158 I/O (io), 159 I/O (io), 161 I/O (io), 162 I/O (io), 163 I/O (io), 164 I/O (io), 166 I/O (io), 167 I/O (io), 168 I/O (io), 169 I/O (io), 171 I/O (io), 172 I/O (io), 173 I/O (io), 174 I/O (io), 175 I/O (io), 184 I/O (io), 187 I/O (io), 191 I/O (io), 192 I/O (io), 193 I/O (io), 194 I/O (io), 195 I/O (io), 196 I/O (io), 198 I/O (io), 199 I/O (io), 200 I/O (io), 201 I/O (io), 202 I/O (io), 203 I/O (io), 204 I/O (io), 206 I/O (io), 207 I/O (io), 208 I/O (io), 214 I/O (io), 215 I/O (io), 217 I/O (io), 218 I/O (io), 219 I/O (io), 220 I/O (io), 221 I/O (io), 222 I/O (io), 223 I/O (io), 225 I/O (io), 226 I/O (io), 227 I/O (io), 228 I/O (io), 229 I/O (io), 230 I/O (io), 231 I/O (io), 233 I/O (io), 234 I/O (io), 235 I/O (io), 237 I/O (io)

## EPF10K40RI208-4
designator U?
FLEX EPF10K40 5.0V Embedded PLD, 147 User IO Pins, 208-Pin RQFP, Speed Grade 4, Industrial Grade; Published: 24-Nov-2000; LatestRevisionDate: 13-Apr-2006; LatestRevisionNote: IPC-7351 Footprint Added.; DatasheetVersion: Jun-1996; PackageVersion: ver14.3, Jul-2006; PackageReference: RQFP208; Publisher: Altium Limited; PackageDescription: 208-Pin Power Quad Flat Pack (RQFP208); Code_JEDEC: MS-029-FA-1; ComponentLink1Description: Manufacturer Link; ComponentLink1URL: http://www.altera.com/products/devices/flex10k/f10-index.html; ComponentLink2Description: Datasheet; ComponentLink2URL: http://www.altera.com/literature/ds/dsf10k.pdf
footprint RQFP208_N (Shrink QFP, 208-Leads, Body 28x28mm, Pitch 0.5mm, IPC Medium Density)
footprint RQFP208_L (Shrink QFP, 208-Leads, Body 28x28mm, Pitch 0.5mm, IPC High Density)
footprint RQFP208_M (Shrink QFP, 208-Leads, Body 28x28mm, Pitch 0.5mm, IPC Low Density)
3D model EPF10K40-RQFP208 (208-Pin Power Quad Flat Pack (RQFP208))
part A pins: 1 TCK (in), 2 CONF_DONE (in), 3 nCEO (out), 4 TDO (out), 5 VCCIO (power), 6 VCCINT (power), 10 CLKUSR (io), 16 RDYnBUSY (io), 19 INIT_DONE (io), 20 GNDIO (power), 21 GNDINT (power), 22 VCCIO (power), 23 VCCINT (power), 32 GNDIO (power), 33 GNDINT (power), 34 VCCIO (power), 35 VCCINT (power), 42 VCCIO (power), 43 VCCINT (power), 48 GNDIO (power), 49 GNDINT (power), 50 TMS (in), 51 TRST (in), 52 nSTATUS (in), 59 GNDIO (power), 66 VCCIO (power), 72 GNDIO (power), 76 VCCINT (power), 77 VCCINT (power), 78 IN (in), 79 CLK (in), 80 IN (in), 81 GNDINT (power), 82 GNDINT (power), 84 VCCIO (power), 91 GNDIO (power), 98 VCCIO (power), 105 nCONFIG (in), 106 VCCINT (power), 107 MSEL1 (in), 108 MSEL0 (in), 109 VCCINT (power), 110 VCCIO (power), 117 VCCINT (power), 118 VCCIO (power), 123 GNDINT (power), 124 GNDIO (power), 129 GNDINT (power), 130 GNDIO (power), 137 VCCINT (power), 138 VCCIO (power), 145 VCCINT (power), 146 VCCIO (power), 151 GNDINT (power), 152 GNDIO (power), 153 TDI (in), 154 nCE (in), 155 DCLK (in), 156 DATA0 (in), 157 DATA1 (io), 158 DATA2 (io), 159 DATA3 (io), 161 DATA4 (io), 162 DATA5 (io), 164 DATA6 (io), 165 VCCIO (power), 166 DATA7 (io), 171 GNDIO (power), 178 VCCIO (power), 180 DEV_CLRn (io), 181 VCCINT (power), 182 IN (in), 183 CLK (in), 184 IN (in), 185 GNDINT (power), 186 DEV_OE (io), 188 GNDIO (power), 194 VCCIO (power), 201 GNDIO (power), 204 nRS (io), 206 nWS (io), 207 CS (io), 208 nCS (io)
part B pins: 7 I/O (io), 8 I/O (io), 9 I/O (io), 11 I/O (io), 12 I/O (io), 13 I/O (io), 14 I/O (io), 15 I/O (io), 17 I/O (io), 18 I/O (io), 24 I/O (io), 25 I/O (io), 26 I/O (io), 27 I/O (io), 28 I/O (io), 29 I/O (io), 30 I/O (io), 31 I/O (io), 36 I/O (io), 37 I/O (io), 38 I/O (io), 39 I/O (io), 40 I/O (io), 41 I/O (io), 44 I/O (io), 45 I/O (io), 46 I/O (io), 47 I/O (io), 53 I/O (io), 54 I/O (io), 55 I/O (io), 56 I/O (io), 57 I/O (io), 58 I/O (io), 60 I/O (io), 61 I/O (io), 62 I/O (io), 63 I/O (io), 64 I/O (io), 65 I/O (io), 67 I/O (io), 68 I/O (io), 69 I/O (io), 70 I/O (io), 71 I/O (io), 73 I/O (io), 74 I/O (io), 75 I/O (io), 83 I/O (io), 85 I/O (io), 86 I/O (io), 87 I/O (io), 88 I/O (io), 89 I/O (io), 90 I/O (io), 92 I/O (io), 93 I/O (io), 94 I/O (io), 95 I/O (io), 96 I/O (io), 97 I/O (io), 99 I/O (io), 100 I/O (io), 101 I/O (io), 102 I/O (io), 103 I/O (io), 104 I/O (io), 111 I/O (io), 112 I/O (io), 113 I/O (io), 114 I/O (io), 115 I/O (io), 116 I/O (io), 119 I/O (io), 120 I/O (io), 121 I/O (io), 122 I/O (io), 125 I/O (io), 126 I/O (io), 127 I/O (io), 128 I/O (io), 131 I/O (io), 132 I/O (io), 133 I/O (io), 134 I/O (io), 135 I/O (io), 136 I/O (io), 139 I/O (io), 140 I/O (io), 141 I/O (io), 142 I/O (io), 143 I/O (io), 144 I/O (io), 147 I/O (io), 148 I/O (io), 149 I/O (io), 150 I/O (io), 160 I/O (io), 163 I/O (io), 167 I/O (io), 168 I/O (io), 169 I/O (io), 170 I/O (io), 172 I/O (io), 173 I/O (io), 174 I/O (io), 175 I/O (io), 176 I/O (io), 177 I/O (io), 179 I/O (io), 187 I/O (io), 189 I/O (io), 190 I/O (io), 191 I/O (io), 192 I/O (io), 193 I/O (io), 195 I/O (io), 196 I/O (io), 197 I/O (io), 198 I/O (io), 199 I/O (io), 200 I/O (io), 202 I/O (io), 203 I/O (io), 205 I/O (io)

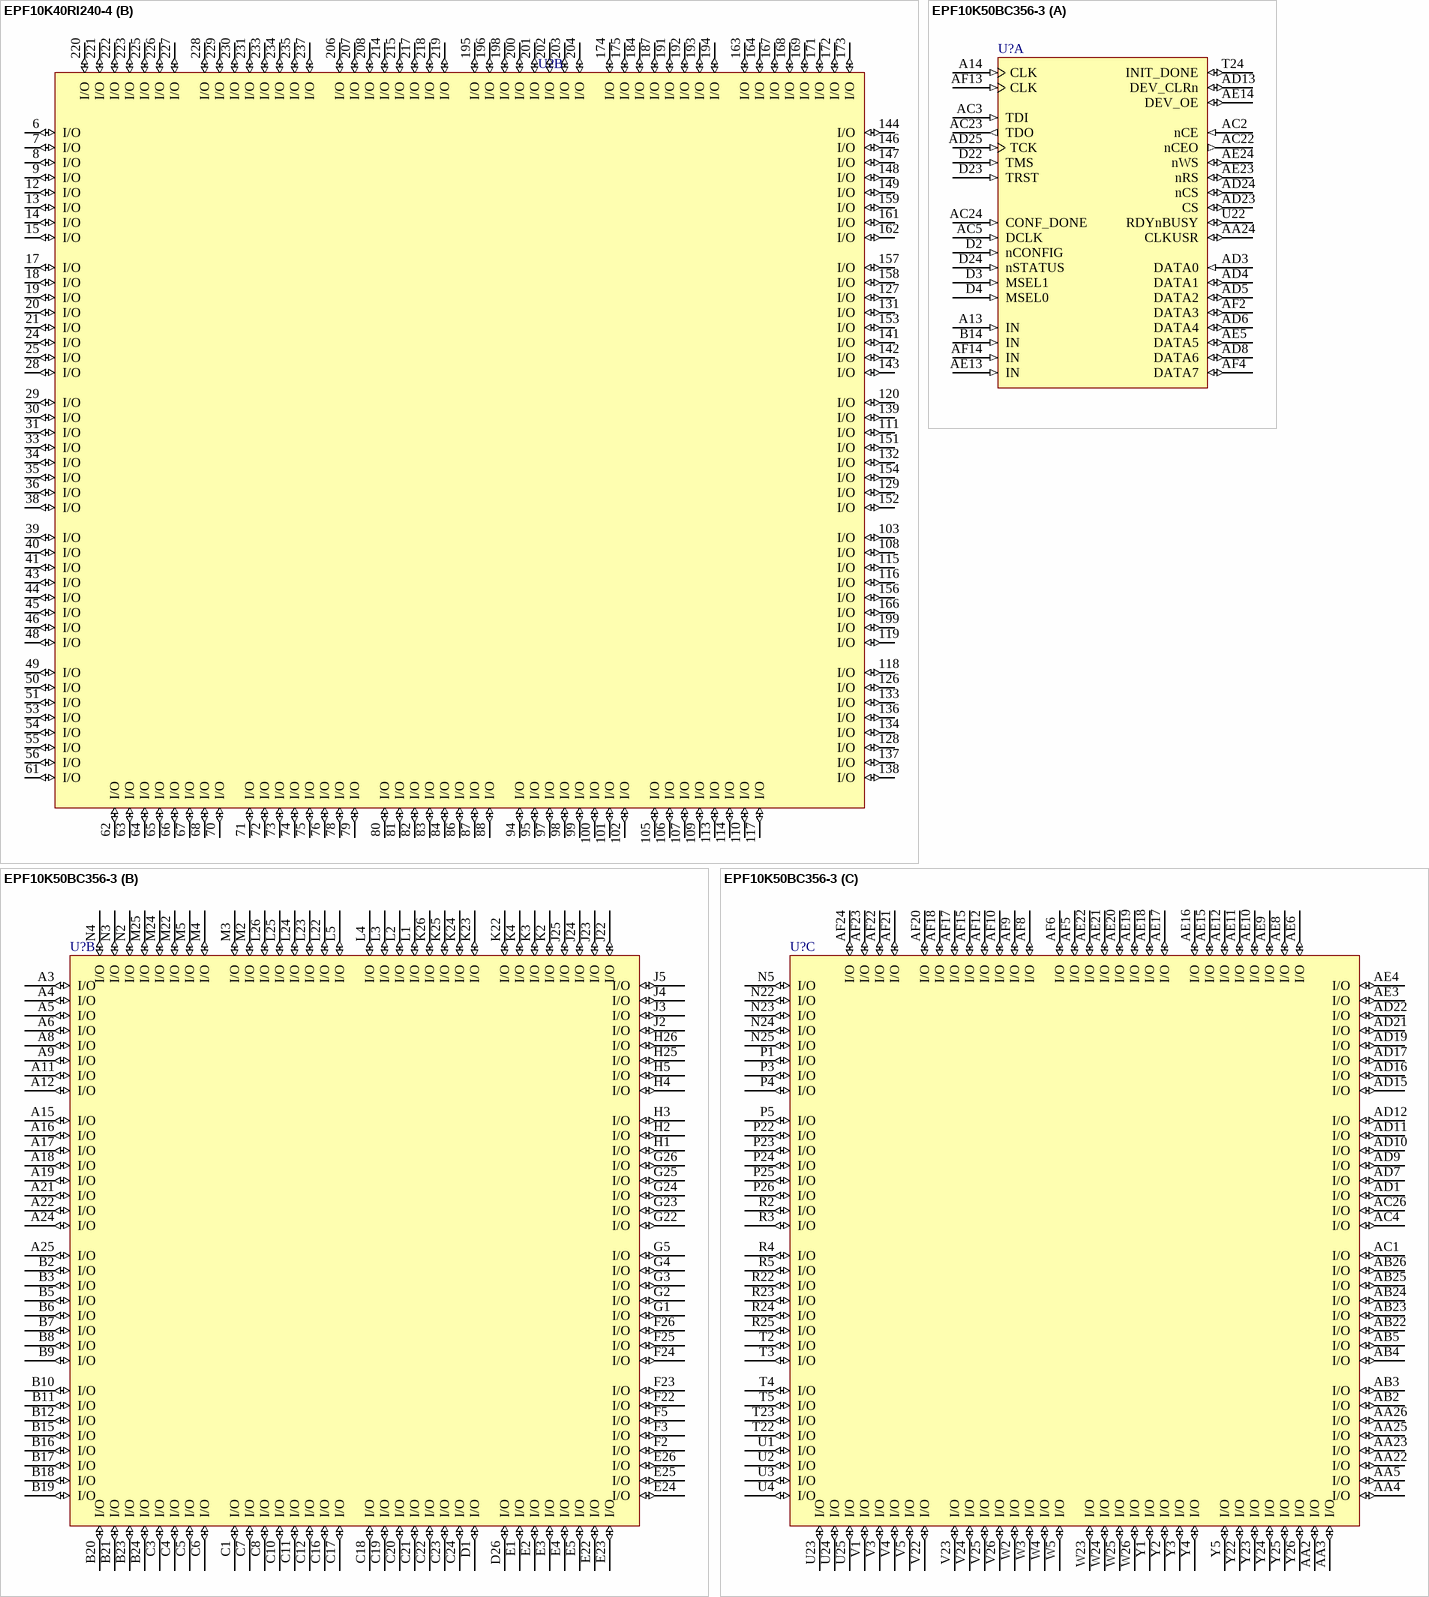
[diagram p84: symbols EPF10K40RI240-4 to EPF10K50BC356-3]

## EPF10K40RI240-4
designator U?
FLEX EPF10K40 5.0V Embedded PLD, 189 User IO Pins, 240-Pin RQFP, Speed Grade 4, Industrial Grade; Published: 24-Nov-2000; LatestRevisionDate: 13-Apr-2006; LatestRevisionNote: IPC-7351 Footprint Added.; DatasheetVersion: Jun-1996; PackageVersion: ver14.2, Oct-2005; PackageReference: RQFP240; Publisher: Altium Limited; PackageDescription: 240-Pin Power Quad Flat Pack (RQFP240); Code_JEDEC: MS-029-GA; ComponentLink1Description: Manufacturer Link; ComponentLink1URL: http://www.altera.com/products/devices/flex10k/f10-index.html; ComponentLink2Description: Datasheet; ComponentLink2URL: http://www.altera.com/literature/ds/dsf10k.pdf
footprint RQFP240_N (Shrink QFP, 240-Leads, Body 32x32mm, Pitch 0.5mm, IPC Medium Density)
footprint RQFP240_L (Shrink QFP, 240-Leads, Body 32x32mm, Pitch 0.5mm, IPC High Density)
footprint RQFP240_M (Shrink QFP, 240-Leads, Body 32x32mm, Pitch 0.5mm, IPC Low Density)
3D model EPF10K40-RQFP240 (240-Pin Power Quad Flat Pack (RQFP240))
part A pins: 1 TCK (in), 2 CONF_DONE (in), 3 nCEO (out), 4 TDO (in), 5 VCCINT (power), 10 GNDINT (power), 11 CLKUSR (io), 16 VCCINT (power), 22 GNDINT (power), 23 RDYnBUSY (io), 26 INIT_DONE (io), 27 VCCINT (power), 32 GNDINT (power), 37 VCCINT (power), 42 GNDINT (power), 47 VCCINT (power), 52 GNDINT (power), 57 VCCINT (power), 58 TMS (in), 59 TRST (in), 60 nSTATUS (in), 69 GNDINT (power), 77 VCCINT (power), 85 GNDINT (power), 89 VCCINT (power), 90 IN (in), 91 CLK (in), 92 IN (in), 93 GNDINT (power), 96 VCCINT (power), 104 GNDINT (power), 112 VCCINT (power), 121 nCONFIG (in), 122 VCCINT (power), 123 MSEL1 (in), 124 MSEL0 (in), 125 GNDINT (power), 130 VCCINT (power), 135 GNDINT (power), 140 VCCINT (power), 145 GNDINT (power), 150 VCCINT (power), 155 GNDINT (power), 160 VCCINT (power), 165 GNDINT (power), 170 VCCINT (power), 176 GNDINT (power), 177 TDI (in), 178 nCE (in), 179 DCLK (in), 180 DATA0 (in), 181 DATA1 (io), 182 DATA2 (io), 183 DATA3 (io), 185 DATA4 (io), 186 DATA5 (io), 188 DATA6 (io), 189 VCCINT (power), 190 DATA7 (io), 197 GNDINT (power), 205 VCCINT (power), 209 DEV_CLRn (io), 210 IN (in), 211 CLK (in), 212 IN (in), 213 DEV_OE (io), 216 GNDINT (power), 224 VCCINT (power), 232 GNDINT (power), 236 nRS (io), 238 nWS (io), 239 CS (io), 240 nCS (io)
part B pins: 6 I/O (io), 7 I/O (io), 8 I/O (io), 9 I/O (io), 12 I/O (io), 13 I/O (io), 14 I/O (io), 15 I/O (io), 17 I/O (io), 18 I/O (io), 19 I/O (io), 20 I/O (io), 21 I/O (io), 24 I/O (io), 25 I/O (io), 28 I/O (io), 29 I/O (io), 30 I/O (io), 31 I/O (io), 33 I/O (io), 34 I/O (io), 35 I/O (io), 36 I/O (io), 38 I/O (io), 39 I/O (io), 40 I/O (io), 41 I/O (io), 43 I/O (io), 44 I/O (io), 45 I/O (io), 46 I/O (io), 48 I/O (io), 49 I/O (io), 50 I/O (io), 51 I/O (io), 53 I/O (io), 54 I/O (io), 55 I/O (io), 56 I/O (io), 61 I/O (io), 62 I/O (io), 63 I/O (io), 64 I/O (io), 65 I/O (io), 66 I/O (io), 67 I/O (io), 68 I/O (io), 70 I/O (io), 71 I/O (io), 72 I/O (io), 73 I/O (io), 74 I/O (io), 75 I/O (io), 76 I/O (io), 78 I/O (io), 79 I/O (io), 80 I/O (io), 81 I/O (io), 82 I/O (io), 83 I/O (io), 84 I/O (io), 86 I/O (io), 87 I/O (io), 88 I/O (io), 94 I/O (io), 95 I/O (io), 97 I/O (io), 98 I/O (io), 99 I/O (io), 100 I/O (io), 101 I/O (io), 102 I/O (io), 103 I/O (io), 105 I/O (io), 106 I/O (io), 107 I/O (io), 108 I/O (io), 109 I/O (io), 110 I/O (io), 111 I/O (io), 113 I/O (io), 114 I/O (io), 115 I/O (io), 116 I/O (io), 117 I/O (io), 118 I/O (io), 119 I/O (io), 120 I/O (io), 126 I/O (io), 127 I/O (io), 128 I/O (io), 129 I/O (io), 131 I/O (io), 132 I/O (io), 133 I/O (io), 134 I/O (io), 136 I/O (io), 137 I/O (io), 138 I/O (io), 139 I/O (io), 141 I/O (io), 142 I/O (io), 143 I/O (io), 144 I/O (io), 146 I/O (io), 147 I/O (io), 148 I/O (io), 149 I/O (io), 151 I/O (io), 152 I/O (io), 153 I/O (io), 154 I/O (io), 156 I/O (io), 157 I/O (io), 158 I/O (io), 159 I/O (io), 161 I/O (io), 162 I/O (io), 163 I/O (io), 164 I/O (io), 166 I/O (io), 167 I/O (io), 168 I/O (io), 169 I/O (io), 171 I/O (io), 172 I/O (io), 173 I/O (io), 174 I/O (io), 175 I/O (io), 184 I/O (io), 187 I/O (io), 191 I/O (io), 192 I/O (io), 193 I/O (io), 194 I/O (io), 195 I/O (io), 196 I/O (io), 198 I/O (io), 199 I/O (io), 200 I/O (io), 201 I/O (io), 202 I/O (io), 203 I/O (io), 204 I/O (io), 206 I/O (io), 207 I/O (io), 208 I/O (io), 214 I/O (io), 215 I/O (io), 217 I/O (io), 218 I/O (io), 219 I/O (io), 220 I/O (io), 221 I/O (io), 222 I/O (io), 223 I/O (io), 225 I/O (io), 226 I/O (io), 227 I/O (io), 228 I/O (io), 229 I/O (io), 230 I/O (io), 231 I/O (io), 233 I/O (io), 234 I/O (io), 235 I/O (io), 237 I/O (io)

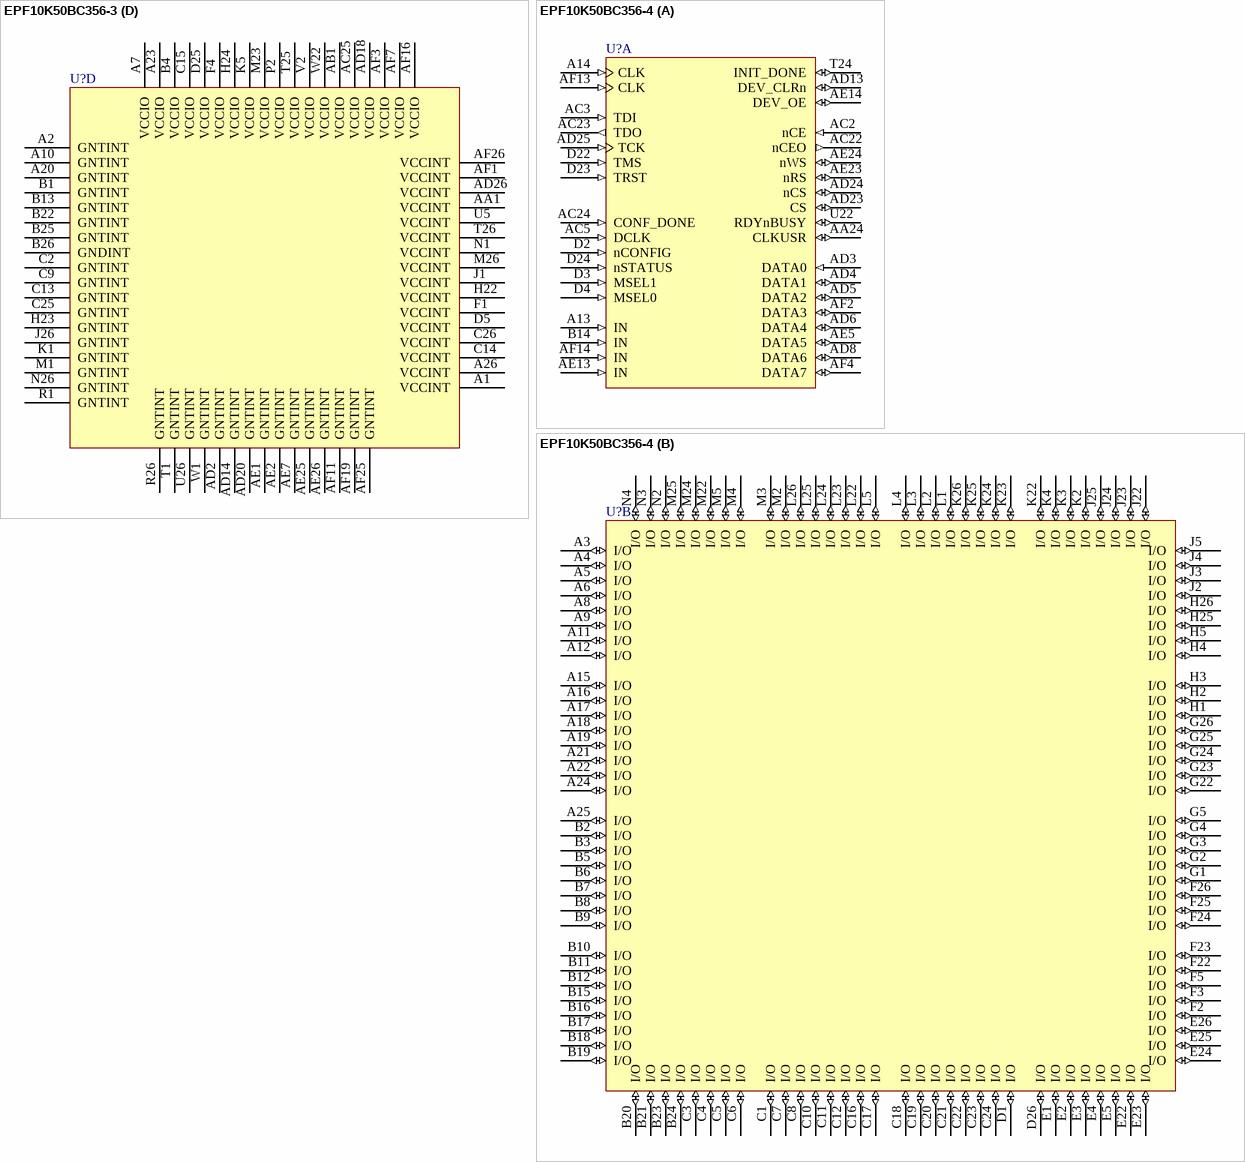
[diagram p85: symbols EPF10K50BC356-3 to EPF10K50BC356-4]

## EPF10K50BC356-3
designator U?
FLEX EPF10K50 5.0V Embedded PLD, 274 User IO Pins, 356-Pin BGA, Speed Grade 3, Commercial Grade; Published: 24-Nov-2000; LatestRevisionDate: 13-Apr-2006; LatestRevisionNote: IPC-7351 Footprint Added.; DatasheetVersion: ver4.2, Jan-2003; PackageVersion: ver14.2, Oct-2005; PackageReference: BGA356; Publisher: Altium Limited; PackageDescription: 356-Ball Ball Grid Array (BGA356); Code_JEDEC: MO-192-BAR-2; ComponentLink1Description: Manufacturer Link; ComponentLink1URL: http://www.altera.com/products/devices/flex10k/f10-index.html; ComponentLink2Description: Datasheet; ComponentLink2URL: http://www.altera.com/literature/ds/dsf10k.pdf
footprint BGA356 (BGA, 356-Leads, Body 35x35mm, Pitch 1.27mm)
3D model EPF10K50-BGA356 (356-Ball Ball Grid Array (BGA356))
part A pins: A13 IN (in), A14 CLK (in), AA24 CLKUSR (io), AC2 nCE (in), AC3 TDI (in), AC5 DCLK (in), AC22 nCEO (out), AC23 TDO (out), AC24 CONF_DONE (in), AD3 DATA0 (in), AD4 DATA1 (io), AD5 DATA2 (io), AD6 DATA4 (io), AD8 DATA6 (io), AD13 DEV_CLRn (io), AD23 CS (io), AD24 nCS (io), AD25 TCK (in), AE5 DATA5 (io), AE13 IN (in), AE14 DEV_OE (io), AE23 nRS (io), AE24 nWS (io), AF2 DATA3 (io), AF4 DATA7 (io), AF13 CLK (in), AF14 IN (in), B14 IN (in), D2 nCONFIG (in), D3 MSEL1 (in), D4 MSEL0 (in), D22 TMS (in), D23 TRST (in), D24 nSTATUS (in), T24 INIT_DONE (io), U22 RDYnBUSY (io)
part B pins: A3 I/O (io), A4 I/O (io), A5 I/O (io), A6 I/O (io), A8 I/O (io), A9 I/O (io), A11 I/O (io), A12 I/O (io), A15 I/O (io), A16 I/O (io), A17 I/O (io), A18 I/O (io), A19 I/O (io), A21 I/O (io), A22 I/O (io), A24 I/O (io), A25 I/O (io), B2 I/O (io), B3 I/O (io), B5 I/O (io), B6 I/O (io), B7 I/O (io), B8 I/O (io), B9 I/O (io), B10 I/O (io), B11 I/O (io), B12 I/O (io), B15 I/O (io), B16 I/O (io), B17 I/O (io), B18 I/O (io), B19 I/O (io), B20 I/O (io), B21 I/O (io), B23 I/O (io), B24 I/O (io), C1 I/O (io), C3 I/O (io), C4 I/O (io), C5 I/O (io), C6 I/O (io), C7 I/O (io), C8 I/O (io), C10 I/O (io), C11 I/O (io), C12 I/O (io), C16 I/O (io), C17 I/O (io), C18 I/O (io), C19 I/O (io), C20 I/O (io), C21 I/O (io), C22 I/O (io), C23 I/O (io), C24 I/O (io), D1 I/O (io), D26 I/O (io), E1 I/O (io), E2 I/O (io), E3 I/O (io), E4 I/O (io), E5 I/O (io), E22 I/O (io), E23 I/O (io), E24 I/O (io), E25 I/O (io), E26 I/O (io), F2 I/O (io), F3 I/O (io), F5 I/O (io), F22 I/O (io), F23 I/O (io), F24 I/O (io), F25 I/O (io), F26 I/O (io), G1 I/O (io), G2 I/O (io), G3 I/O (io), G4 I/O (io), G5 I/O (io), G22 I/O (io), G23 I/O (io), G24 I/O (io), G25 I/O (io), G26 I/O (io), H1 I/O (io), H2 I/O (io), H3 I/O (io), H4 I/O (io), H5 I/O (io), H25 I/O (io), H26 I/O (io), J2 I/O (io), J3 I/O (io), J4 I/O (io), J5 I/O (io), J22 I/O (io), J23 I/O (io), J24 I/O (io), J25 I/O (io), K2 I/O (io), K3 I/O (io), K4 I/O (io), K22 I/O (io), K23 I/O (io), K24 I/O (io), K25 I/O (io), K26 I/O (io), L1 I/O (io), L2 I/O (io), L3 I/O (io), L4 I/O (io), L5 I/O (io), L22 I/O (io), L23 I/O (io), L24 I/O (io), L25 I/O (io), L26 I/O (io), M2 I/O (io), M3 I/O (io), M4 I/O (io), M5 I/O (io), M22 I/O (io), M24 I/O (io), M25 I/O (io), N2 I/O (io), N3 I/O (io), N4 I/O (io)
part C pins: AA2 I/O (io), AA3 I/O (io), AA4 I/O (io), AA5 I/O (io), AA22 I/O (io), AA23 I/O (io), AA25 I/O (io), AA26 I/O (io), AB2 I/O (io), AB3 I/O (io), AB4 I/O (io), AB5 I/O (io), AB22 I/O (io), AB23 I/O (io), AB24 I/O (io), AB25 I/O (io), AB26 I/O (io), AC1 I/O (io), AC4 I/O (io), AC26 I/O (io), AD1 I/O (io), AD7 I/O (io), AD9 I/O (io), AD10 I/O (io), AD11 I/O (io), AD12 I/O (io), AD15 I/O (io), AD16 I/O (io), AD17 I/O (io), AD19 I/O (io), AD21 I/O (io), AD22 I/O (io), AE3 I/O (io), AE4 I/O (io), AE6 I/O (io), AE8 I/O (io), AE9 I/O (io), AE10 I/O (io), AE11 I/O (io), AE12 I/O (io), AE15 I/O (io), AE16 I/O (io), AE17 I/O (io), AE18 I/O (io), AE19 I/O (io), AE20 I/O (io), AE21 I/O (io), AE22 I/O (io), AF5 I/O (io), AF6 I/O (io), AF8 I/O (io), AF9 I/O (io), AF10 I/O (io), AF12 I/O (io), AF15 I/O (io), AF17 I/O (io), AF18 I/O (io), AF20 I/O (io), AF21 I/O (io), AF22 I/O (io), AF23 I/O (io), AF24 I/O (io), N5 I/O (io), N22 I/O (io), N23 I/O (io), N24 I/O (io), N25 I/O (io), P1 I/O (io), P3 I/O (io), P4 I/O (io), P5 I/O (io), P22 I/O (io), P23 I/O (io), P24 I/O (io), P25 I/O (io), P26 I/O (io), R2 I/O (io), R3 I/O (io), R4 I/O (io), R5 I/O (io), R22 I/O (io), R23 I/O (io), R24 I/O (io), R25 I/O (io), T2 I/O (io), T3 I/O (io), T4 I/O (io), T5 I/O (io), T22 I/O (io), T23 I/O (io), U1 I/O (io), U2 I/O (io), U3 I/O (io), U4 I/O (io), U23 I/O (io), U24 I/O (io), U25 I/O (io), V1 I/O (io), V3 I/O (io), V4 I/O (io), V5 I/O (io), V22 I/O (io), V23 I/O (io), V24 I/O (io), V25 I/O (io), V26 I/O (io), W2 I/O (io), W3 I/O (io), W4 I/O (io), W5 I/O (io), W23 I/O (io), W24 I/O (io), W25 I/O (io), W26 I/O (io), Y1 I/O (io), Y2 I/O (io), Y3 I/O (io), Y4 I/O (io), Y5 I/O (io), Y22 I/O (io), Y23 I/O (io), Y24 I/O (io), Y25 I/O (io), Y26 I/O (io)
part D pins: A1 VCCINT (power), A2 GNTINT (power), A7 VCCIO (power), A10 GNTINT (power), A20 GNTINT (power), A23 VCCIO (power), A26 VCCINT (power), AA1 VCCINT (power), AB1 VCCIO (power), AC25 VCCIO (power), AD2 GNTINT (power), AD14 GNTINT (power), AD18 VCCIO (power), AD20 GNTINT (power), AD26 VCCINT (power), AE1 GNTINT (power), AE2 GNTINT (power), AE7 GNTINT (power), AE25 GNTINT (power), AE26 GNTINT (power), AF1 VCCINT (power), AF3 VCCIO (power), AF7 VCCIO (power), AF11 GNTINT (power), AF16 VCCIO (power), AF19 GNTINT (power), AF25 GNTINT (power), AF26 VCCINT (power), B1 GNTINT (power), B4 VCCIO (power), B13 GNTINT (power), B22 GNTINT (power), B25 GNTINT (power), B26 GNDINT (power), C2 GNTINT (power), C9 GNTINT (power), C13 GNTINT (power), C14 VCCINT (power), C15 VCCIO (power), C25 GNTINT (power), C26 VCCINT (power), D5 VCCINT (power), D25 VCCIO (power), F1 VCCINT (power), F4 VCCIO (power), H22 VCCINT (power), H23 GNTINT (power), H24 VCCIO (power), J1 VCCINT (power), J26 GNTINT (power), K1 GNTINT (power), K5 VCCIO (power), M1 GNTINT (power), M23 VCCIO (power), M26 VCCINT (power), N1 VCCINT (power), N26 GNTINT (power), P2 VCCIO (power), R1 GNTINT (power), R26 GNTINT (power), T1 GNTINT (power), T25 VCCIO (power), T26 VCCINT (power), U5 VCCINT (power), U26 GNTINT (power), V2 VCCIO (power), W1 GNTINT (power), W22 VCCIO (power)

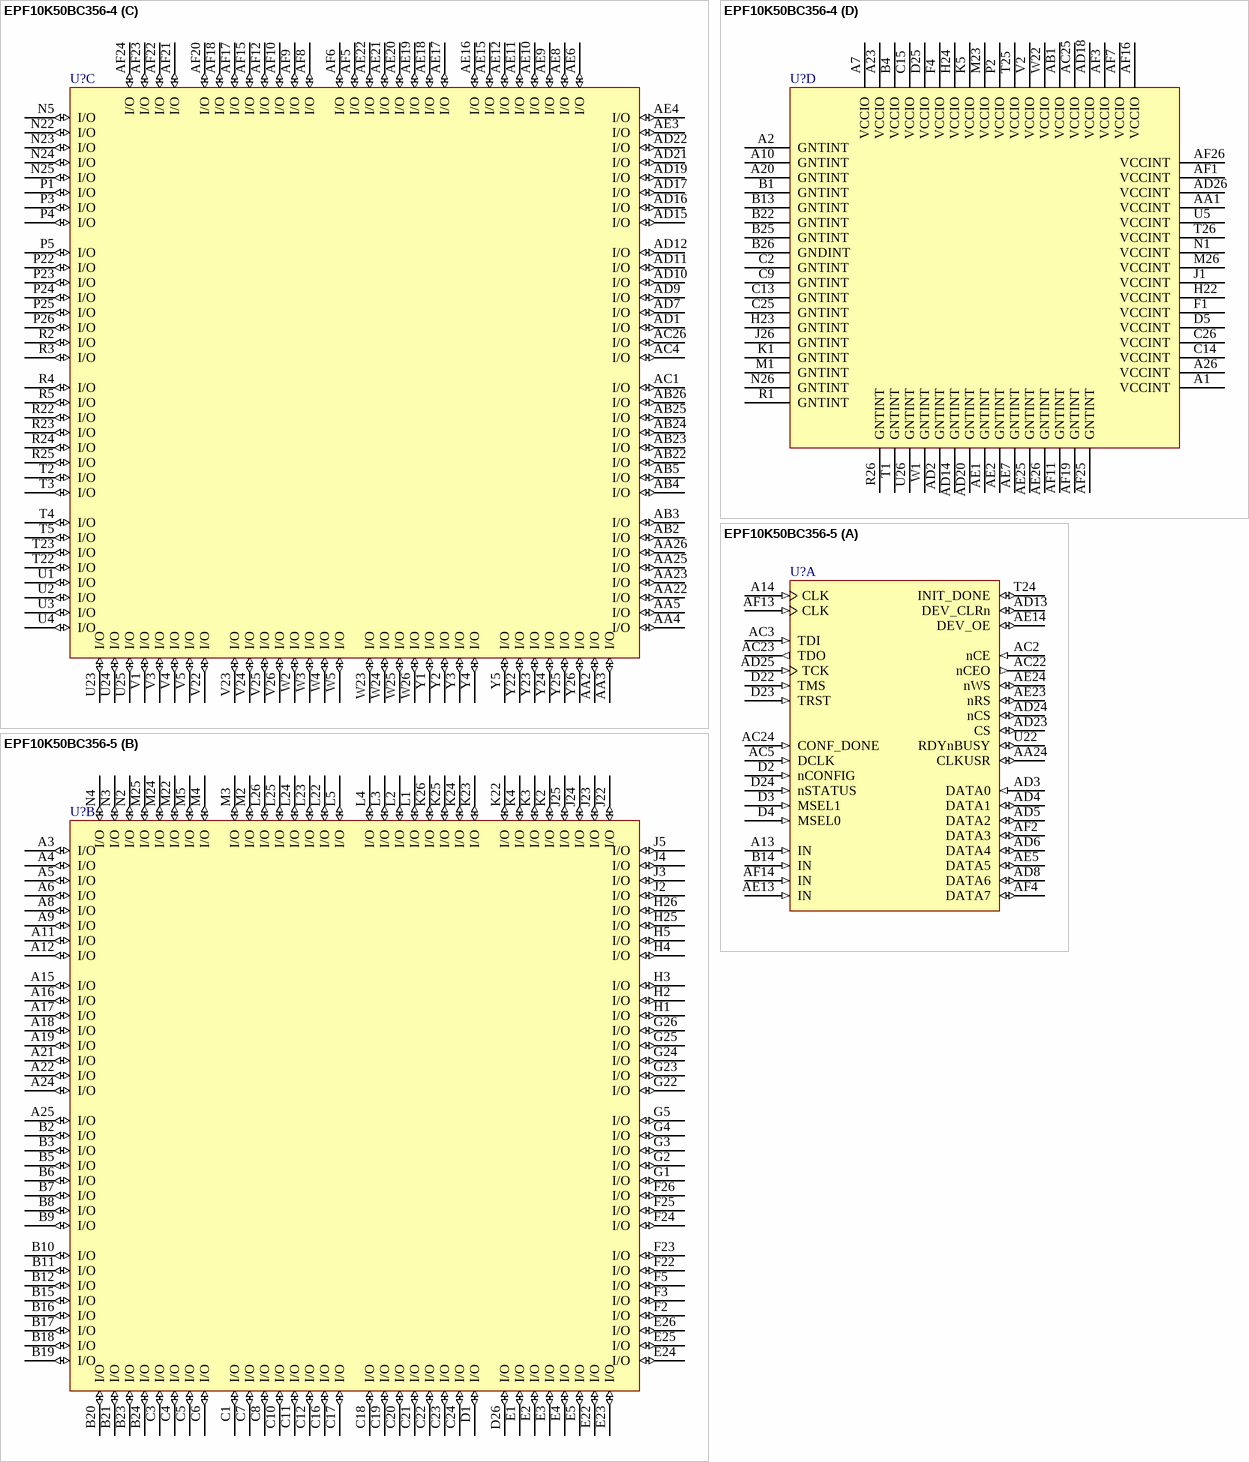
[diagram p86: symbols EPF10K50BC356-4 to EPF10K50BC356-5]

## EPF10K50BC356-4
designator U?
FLEX EPF10K50 5.0V Embedded PLD, 274 User IO Pins, 356-Pin BGA, Speed Grade 4, Commercial Grade; Published: 24-Nov-2000; LatestRevisionDate: 13-Apr-2006; LatestRevisionNote: IPC-7351 Footprint Added.; DatasheetVersion: ver4.2, Jan-2003; PackageVersion: ver14.2, Oct-2005; PackageReference: BGA356; Publisher: Altium Limited; PackageDescription: 356-Ball Ball Grid Array (BGA356); Code_JEDEC: MO-192-BAR-2; ComponentLink1Description: Manufacturer Link; ComponentLink1URL: http://www.altera.com/products/devices/flex10k/f10-index.html; ComponentLink2Description: Datasheet; ComponentLink2URL: http://www.altera.com/literature/ds/dsf10k.pdf
footprint BGA356 (BGA, 356-Leads, Body 35x35mm, Pitch 1.27mm)
3D model EPF10K50-BGA356 (356-Ball Ball Grid Array (BGA356))
part A pins: A13 IN (in), A14 CLK (in), AA24 CLKUSR (io), AC2 nCE (in), AC3 TDI (in), AC5 DCLK (in), AC22 nCEO (out), AC23 TDO (out), AC24 CONF_DONE (in), AD3 DATA0 (in), AD4 DATA1 (io), AD5 DATA2 (io), AD6 DATA4 (io), AD8 DATA6 (io), AD13 DEV_CLRn (io), AD23 CS (io), AD24 nCS (io), AD25 TCK (in), AE5 DATA5 (io), AE13 IN (in), AE14 DEV_OE (io), AE23 nRS (io), AE24 nWS (io), AF2 DATA3 (io), AF4 DATA7 (io), AF13 CLK (in), AF14 IN (in), B14 IN (in), D2 nCONFIG (in), D3 MSEL1 (in), D4 MSEL0 (in), D22 TMS (in), D23 TRST (in), D24 nSTATUS (in), T24 INIT_DONE (io), U22 RDYnBUSY (io)
part B pins: A3 I/O (io), A4 I/O (io), A5 I/O (io), A6 I/O (io), A8 I/O (io), A9 I/O (io), A11 I/O (io), A12 I/O (io), A15 I/O (io), A16 I/O (io), A17 I/O (io), A18 I/O (io), A19 I/O (io), A21 I/O (io), A22 I/O (io), A24 I/O (io), A25 I/O (io), B2 I/O (io), B3 I/O (io), B5 I/O (io), B6 I/O (io), B7 I/O (io), B8 I/O (io), B9 I/O (io), B10 I/O (io), B11 I/O (io), B12 I/O (io), B15 I/O (io), B16 I/O (io), B17 I/O (io), B18 I/O (io), B19 I/O (io), B20 I/O (io), B21 I/O (io), B23 I/O (io), B24 I/O (io), C1 I/O (io), C3 I/O (io), C4 I/O (io), C5 I/O (io), C6 I/O (io), C7 I/O (io), C8 I/O (io), C10 I/O (io), C11 I/O (io), C12 I/O (io), C16 I/O (io), C17 I/O (io), C18 I/O (io), C19 I/O (io), C20 I/O (io), C21 I/O (io), C22 I/O (io), C23 I/O (io), C24 I/O (io), D1 I/O (io), D26 I/O (io), E1 I/O (io), E2 I/O (io), E3 I/O (io), E4 I/O (io), E5 I/O (io), E22 I/O (io), E23 I/O (io), E24 I/O (io), E25 I/O (io), E26 I/O (io), F2 I/O (io), F3 I/O (io), F5 I/O (io), F22 I/O (io), F23 I/O (io), F24 I/O (io), F25 I/O (io), F26 I/O (io), G1 I/O (io), G2 I/O (io), G3 I/O (io), G4 I/O (io), G5 I/O (io), G22 I/O (io), G23 I/O (io), G24 I/O (io), G25 I/O (io), G26 I/O (io), H1 I/O (io), H2 I/O (io), H3 I/O (io), H4 I/O (io), H5 I/O (io), H25 I/O (io), H26 I/O (io), J2 I/O (io), J3 I/O (io), J4 I/O (io), J5 I/O (io), J22 I/O (io), J23 I/O (io), J24 I/O (io), J25 I/O (io), K2 I/O (io), K3 I/O (io), K4 I/O (io), K22 I/O (io), K23 I/O (io), K24 I/O (io), K25 I/O (io), K26 I/O (io), L1 I/O (io), L2 I/O (io), L3 I/O (io), L4 I/O (io), L5 I/O (io), L22 I/O (io), L23 I/O (io), L24 I/O (io), L25 I/O (io), L26 I/O (io), M2 I/O (io), M3 I/O (io), M4 I/O (io), M5 I/O (io), M22 I/O (io), M24 I/O (io), M25 I/O (io), N2 I/O (io), N3 I/O (io), N4 I/O (io)
part C pins: AA2 I/O (io), AA3 I/O (io), AA4 I/O (io), AA5 I/O (io), AA22 I/O (io), AA23 I/O (io), AA25 I/O (io), AA26 I/O (io), AB2 I/O (io), AB3 I/O (io), AB4 I/O (io), AB5 I/O (io), AB22 I/O (io), AB23 I/O (io), AB24 I/O (io), AB25 I/O (io), AB26 I/O (io), AC1 I/O (io), AC4 I/O (io), AC26 I/O (io), AD1 I/O (io), AD7 I/O (io), AD9 I/O (io), AD10 I/O (io), AD11 I/O (io), AD12 I/O (io), AD15 I/O (io), AD16 I/O (io), AD17 I/O (io), AD19 I/O (io), AD21 I/O (io), AD22 I/O (io), AE3 I/O (io), AE4 I/O (io), AE6 I/O (io), AE8 I/O (io), AE9 I/O (io), AE10 I/O (io), AE11 I/O (io), AE12 I/O (io), AE15 I/O (io), AE16 I/O (io), AE17 I/O (io), AE18 I/O (io), AE19 I/O (io), AE20 I/O (io), AE21 I/O (io), AE22 I/O (io), AF5 I/O (io), AF6 I/O (io), AF8 I/O (io), AF9 I/O (io), AF10 I/O (io), AF12 I/O (io), AF15 I/O (io), AF17 I/O (io), AF18 I/O (io), AF20 I/O (io), AF21 I/O (io), AF22 I/O (io), AF23 I/O (io), AF24 I/O (io), N5 I/O (io), N22 I/O (io), N23 I/O (io), N24 I/O (io), N25 I/O (io), P1 I/O (io), P3 I/O (io), P4 I/O (io), P5 I/O (io), P22 I/O (io), P23 I/O (io), P24 I/O (io), P25 I/O (io), P26 I/O (io), R2 I/O (io), R3 I/O (io), R4 I/O (io), R5 I/O (io), R22 I/O (io), R23 I/O (io), R24 I/O (io), R25 I/O (io), T2 I/O (io), T3 I/O (io), T4 I/O (io), T5 I/O (io), T22 I/O (io), T23 I/O (io), U1 I/O (io), U2 I/O (io), U3 I/O (io), U4 I/O (io), U23 I/O (io), U24 I/O (io), U25 I/O (io), V1 I/O (io), V3 I/O (io), V4 I/O (io), V5 I/O (io), V22 I/O (io), V23 I/O (io), V24 I/O (io), V25 I/O (io), V26 I/O (io), W2 I/O (io), W3 I/O (io), W4 I/O (io), W5 I/O (io), W23 I/O (io), W24 I/O (io), W25 I/O (io), W26 I/O (io), Y1 I/O (io), Y2 I/O (io), Y3 I/O (io), Y4 I/O (io), Y5 I/O (io), Y22 I/O (io), Y23 I/O (io), Y24 I/O (io), Y25 I/O (io), Y26 I/O (io)
part D pins: A1 VCCINT (power), A2 GNTINT (power), A7 VCCIO (power), A10 GNTINT (power), A20 GNTINT (power), A23 VCCIO (power), A26 VCCINT (power), AA1 VCCINT (power), AB1 VCCIO (power), AC25 VCCIO (power), AD2 GNTINT (power), AD14 GNTINT (power), AD18 VCCIO (power), AD20 GNTINT (power), AD26 VCCINT (power), AE1 GNTINT (power), AE2 GNTINT (power), AE7 GNTINT (power), AE25 GNTINT (power), AE26 GNTINT (power), AF1 VCCINT (power), AF3 VCCIO (power), AF7 VCCIO (power), AF11 GNTINT (power), AF16 VCCIO (power), AF19 GNTINT (power), AF25 GNTINT (power), AF26 VCCINT (power), B1 GNTINT (power), B4 VCCIO (power), B13 GNTINT (power), B22 GNTINT (power), B25 GNTINT (power), B26 GNDINT (power), C2 GNTINT (power), C9 GNTINT (power), C13 GNTINT (power), C14 VCCINT (power), C15 VCCIO (power), C25 GNTINT (power), C26 VCCINT (power), D5 VCCINT (power), D25 VCCIO (power), F1 VCCINT (power), F4 VCCIO (power), H22 VCCINT (power), H23 GNTINT (power), H24 VCCIO (power), J1 VCCINT (power), J26 GNTINT (power), K1 GNTINT (power), K5 VCCIO (power), M1 GNTINT (power), M23 VCCIO (power), M26 VCCINT (power), N1 VCCINT (power), N26 GNTINT (power), P2 VCCIO (power), R1 GNTINT (power), R26 GNTINT (power), T1 GNTINT (power), T25 VCCIO (power), T26 VCCINT (power), U5 VCCINT (power), U26 GNTINT (power), V2 VCCIO (power), W1 GNTINT (power), W22 VCCIO (power)

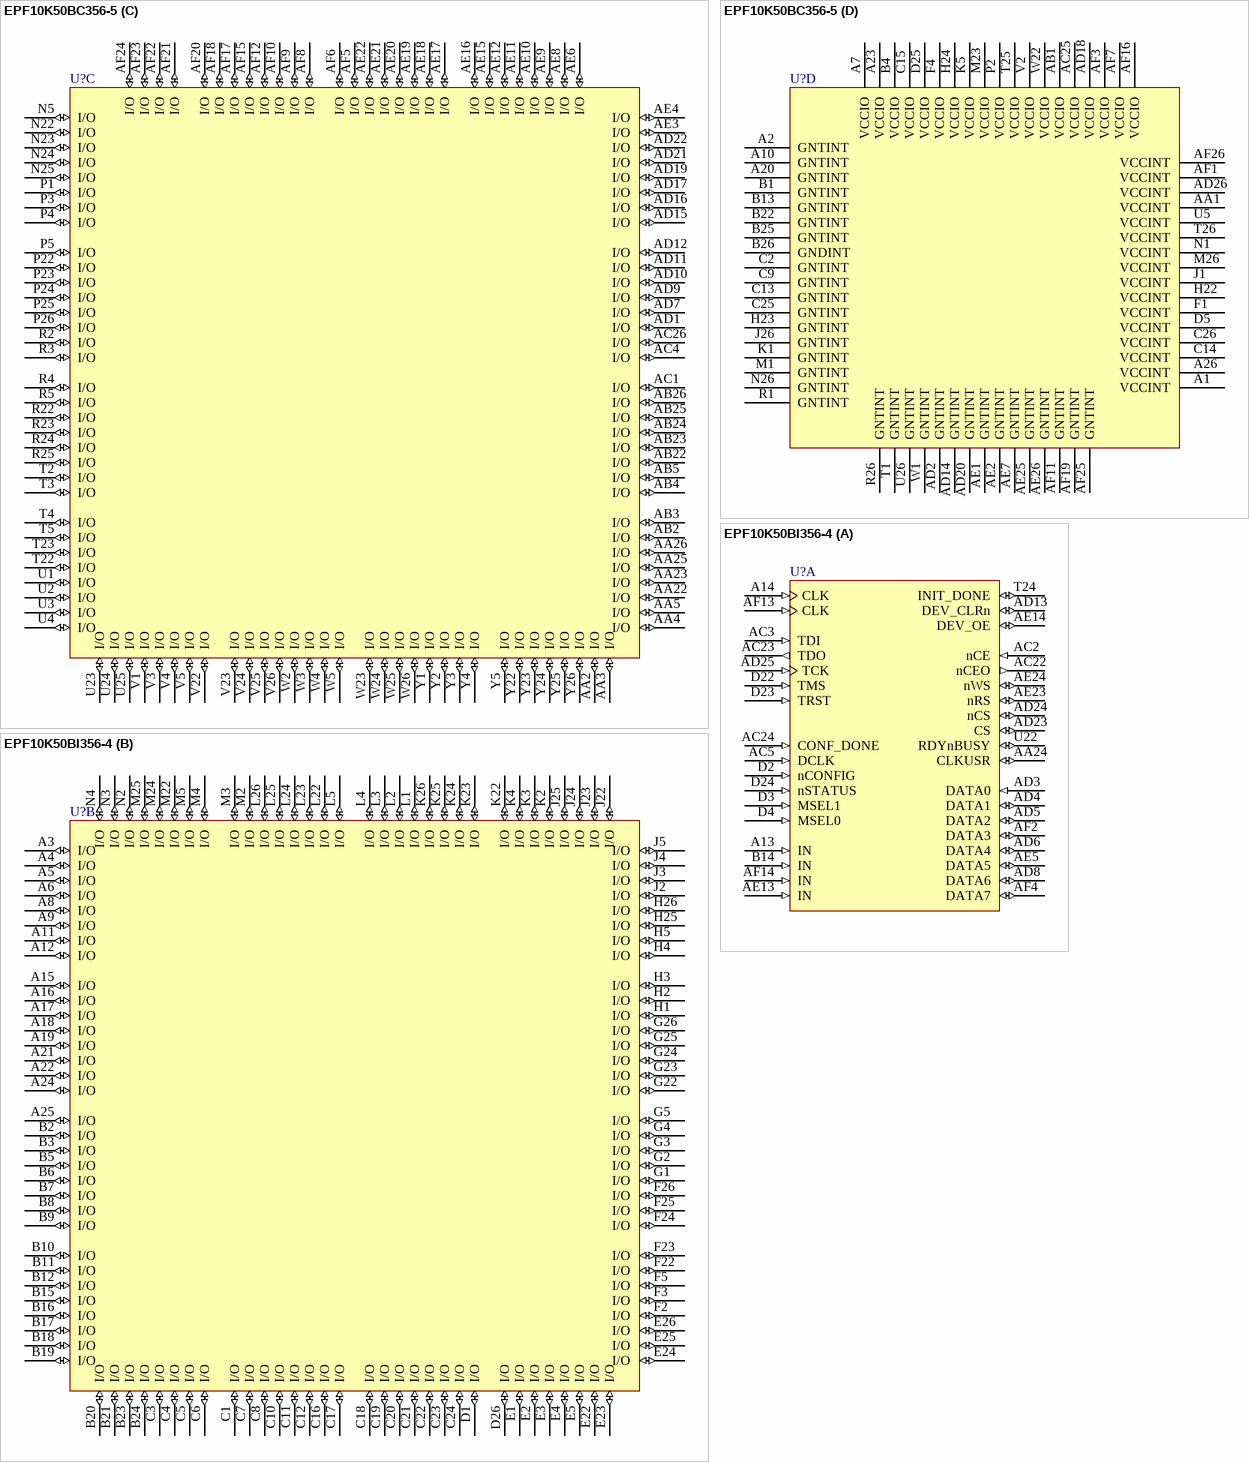
[diagram p87: symbols EPF10K50BC356-5 to EPF10K50BI356-4]

## EPF10K50BC356-5
designator U?
FLEX EPF10K50 5.0V Embedded PLD, 274 User IO Pins, 356-Pin BGA, Speed Grade 5, Commercial Grade; Published: 24-Nov-2000; LatestRevisionDate: 13-Apr-2006; LatestRevisionNote: IPC-7351 Footprint Added.; DatasheetVersion: Jun-1996; PackageVersion: ver14.2, Oct-2005; PackageReference: BGA356; Publisher: Altium Limited; PackageDescription: 356-Ball Ball Grid Array (BGA356); Code_JEDEC: MO-192-BAR-2; ComponentLink1Description: Manufacturer Link; ComponentLink1URL: http://www.altera.com/products/devices/flex10k/f10-index.html; ComponentLink2Description: Datasheet; ComponentLink2URL: http://www.altera.com/literature/ds/dsf10k.pdf
footprint BGA356 (BGA, 356-Leads, Body 35x35mm, Pitch 1.27mm)
3D model EPF10K50-BGA356 (356-Ball Ball Grid Array (BGA356))
part A pins: A13 IN (in), A14 CLK (in), AA24 CLKUSR (io), AC2 nCE (in), AC3 TDI (in), AC5 DCLK (in), AC22 nCEO (out), AC23 TDO (out), AC24 CONF_DONE (in), AD3 DATA0 (in), AD4 DATA1 (io), AD5 DATA2 (io), AD6 DATA4 (io), AD8 DATA6 (io), AD13 DEV_CLRn (io), AD23 CS (io), AD24 nCS (io), AD25 TCK (in), AE5 DATA5 (io), AE13 IN (in), AE14 DEV_OE (io), AE23 nRS (io), AE24 nWS (io), AF2 DATA3 (io), AF4 DATA7 (io), AF13 CLK (in), AF14 IN (in), B14 IN (in), D2 nCONFIG (in), D3 MSEL1 (in), D4 MSEL0 (in), D22 TMS (in), D23 TRST (in), D24 nSTATUS (in), T24 INIT_DONE (io), U22 RDYnBUSY (io)
part B pins: A3 I/O (io), A4 I/O (io), A5 I/O (io), A6 I/O (io), A8 I/O (io), A9 I/O (io), A11 I/O (io), A12 I/O (io), A15 I/O (io), A16 I/O (io), A17 I/O (io), A18 I/O (io), A19 I/O (io), A21 I/O (io), A22 I/O (io), A24 I/O (io), A25 I/O (io), B2 I/O (io), B3 I/O (io), B5 I/O (io), B6 I/O (io), B7 I/O (io), B8 I/O (io), B9 I/O (io), B10 I/O (io), B11 I/O (io), B12 I/O (io), B15 I/O (io), B16 I/O (io), B17 I/O (io), B18 I/O (io), B19 I/O (io), B20 I/O (io), B21 I/O (io), B23 I/O (io), B24 I/O (io), C1 I/O (io), C3 I/O (io), C4 I/O (io), C5 I/O (io), C6 I/O (io), C7 I/O (io), C8 I/O (io), C10 I/O (io), C11 I/O (io), C12 I/O (io), C16 I/O (io), C17 I/O (io), C18 I/O (io), C19 I/O (io), C20 I/O (io), C21 I/O (io), C22 I/O (io), C23 I/O (io), C24 I/O (io), D1 I/O (io), D26 I/O (io), E1 I/O (io), E2 I/O (io), E3 I/O (io), E4 I/O (io), E5 I/O (io), E22 I/O (io), E23 I/O (io), E24 I/O (io), E25 I/O (io), E26 I/O (io), F2 I/O (io), F3 I/O (io), F5 I/O (io), F22 I/O (io), F23 I/O (io), F24 I/O (io), F25 I/O (io), F26 I/O (io), G1 I/O (io), G2 I/O (io), G3 I/O (io), G4 I/O (io), G5 I/O (io), G22 I/O (io), G23 I/O (io), G24 I/O (io), G25 I/O (io), G26 I/O (io), H1 I/O (io), H2 I/O (io), H3 I/O (io), H4 I/O (io), H5 I/O (io), H25 I/O (io), H26 I/O (io), J2 I/O (io), J3 I/O (io), J4 I/O (io), J5 I/O (io), J22 I/O (io), J23 I/O (io), J24 I/O (io), J25 I/O (io), K2 I/O (io), K3 I/O (io), K4 I/O (io), K22 I/O (io), K23 I/O (io), K24 I/O (io), K25 I/O (io), K26 I/O (io), L1 I/O (io), L2 I/O (io), L3 I/O (io), L4 I/O (io), L5 I/O (io), L22 I/O (io), L23 I/O (io), L24 I/O (io), L25 I/O (io), L26 I/O (io), M2 I/O (io), M3 I/O (io), M4 I/O (io), M5 I/O (io), M22 I/O (io), M24 I/O (io), M25 I/O (io), N2 I/O (io), N3 I/O (io), N4 I/O (io)
part C pins: AA2 I/O (io), AA3 I/O (io), AA4 I/O (io), AA5 I/O (io), AA22 I/O (io), AA23 I/O (io), AA25 I/O (io), AA26 I/O (io), AB2 I/O (io), AB3 I/O (io), AB4 I/O (io), AB5 I/O (io), AB22 I/O (io), AB23 I/O (io), AB24 I/O (io), AB25 I/O (io), AB26 I/O (io), AC1 I/O (io), AC4 I/O (io), AC26 I/O (io), AD1 I/O (io), AD7 I/O (io), AD9 I/O (io), AD10 I/O (io), AD11 I/O (io), AD12 I/O (io), AD15 I/O (io), AD16 I/O (io), AD17 I/O (io), AD19 I/O (io), AD21 I/O (io), AD22 I/O (io), AE3 I/O (io), AE4 I/O (io), AE6 I/O (io), AE8 I/O (io), AE9 I/O (io), AE10 I/O (io), AE11 I/O (io), AE12 I/O (io), AE15 I/O (io), AE16 I/O (io), AE17 I/O (io), AE18 I/O (io), AE19 I/O (io), AE20 I/O (io), AE21 I/O (io), AE22 I/O (io), AF5 I/O (io), AF6 I/O (io), AF8 I/O (io), AF9 I/O (io), AF10 I/O (io), AF12 I/O (io), AF15 I/O (io), AF17 I/O (io), AF18 I/O (io), AF20 I/O (io), AF21 I/O (io), AF22 I/O (io), AF23 I/O (io), AF24 I/O (io), N5 I/O (io), N22 I/O (io), N23 I/O (io), N24 I/O (io), N25 I/O (io), P1 I/O (io), P3 I/O (io), P4 I/O (io), P5 I/O (io), P22 I/O (io), P23 I/O (io), P24 I/O (io), P25 I/O (io), P26 I/O (io), R2 I/O (io), R3 I/O (io), R4 I/O (io), R5 I/O (io), R22 I/O (io), R23 I/O (io), R24 I/O (io), R25 I/O (io), T2 I/O (io), T3 I/O (io), T4 I/O (io), T5 I/O (io), T22 I/O (io), T23 I/O (io), U1 I/O (io), U2 I/O (io), U3 I/O (io), U4 I/O (io), U23 I/O (io), U24 I/O (io), U25 I/O (io), V1 I/O (io), V3 I/O (io), V4 I/O (io), V5 I/O (io), V22 I/O (io), V23 I/O (io), V24 I/O (io), V25 I/O (io), V26 I/O (io), W2 I/O (io), W3 I/O (io), W4 I/O (io), W5 I/O (io), W23 I/O (io), W24 I/O (io), W25 I/O (io), W26 I/O (io), Y1 I/O (io), Y2 I/O (io), Y3 I/O (io), Y4 I/O (io), Y5 I/O (io), Y22 I/O (io), Y23 I/O (io), Y24 I/O (io), Y25 I/O (io), Y26 I/O (io)
part D pins: A1 VCCINT (power), A2 GNTINT (power), A7 VCCIO (power), A10 GNTINT (power), A20 GNTINT (power), A23 VCCIO (power), A26 VCCINT (power), AA1 VCCINT (power), AB1 VCCIO (power), AC25 VCCIO (power), AD2 GNTINT (power), AD14 GNTINT (power), AD18 VCCIO (power), AD20 GNTINT (power), AD26 VCCINT (power), AE1 GNTINT (power), AE2 GNTINT (power), AE7 GNTINT (power), AE25 GNTINT (power), AE26 GNTINT (power), AF1 VCCINT (power), AF3 VCCIO (power), AF7 VCCIO (power), AF11 GNTINT (power), AF16 VCCIO (power), AF19 GNTINT (power), AF25 GNTINT (power), AF26 VCCINT (power), B1 GNTINT (power), B4 VCCIO (power), B13 GNTINT (power), B22 GNTINT (power), B25 GNTINT (power), B26 GNDINT (power), C2 GNTINT (power), C9 GNTINT (power), C13 GNTINT (power), C14 VCCINT (power), C15 VCCIO (power), C25 GNTINT (power), C26 VCCINT (power), D5 VCCINT (power), D25 VCCIO (power), F1 VCCINT (power), F4 VCCIO (power), H22 VCCINT (power), H23 GNTINT (power), H24 VCCIO (power), J1 VCCINT (power), J26 GNTINT (power), K1 GNTINT (power), K5 VCCIO (power), M1 GNTINT (power), M23 VCCIO (power), M26 VCCINT (power), N1 VCCINT (power), N26 GNTINT (power), P2 VCCIO (power), R1 GNTINT (power), R26 GNTINT (power), T1 GNTINT (power), T25 VCCIO (power), T26 VCCINT (power), U5 VCCINT (power), U26 GNTINT (power), V2 VCCIO (power), W1 GNTINT (power), W22 VCCIO (power)